# Altium schematic symbol library bethu.SchLib: 609 symbols (part 3 of 6)
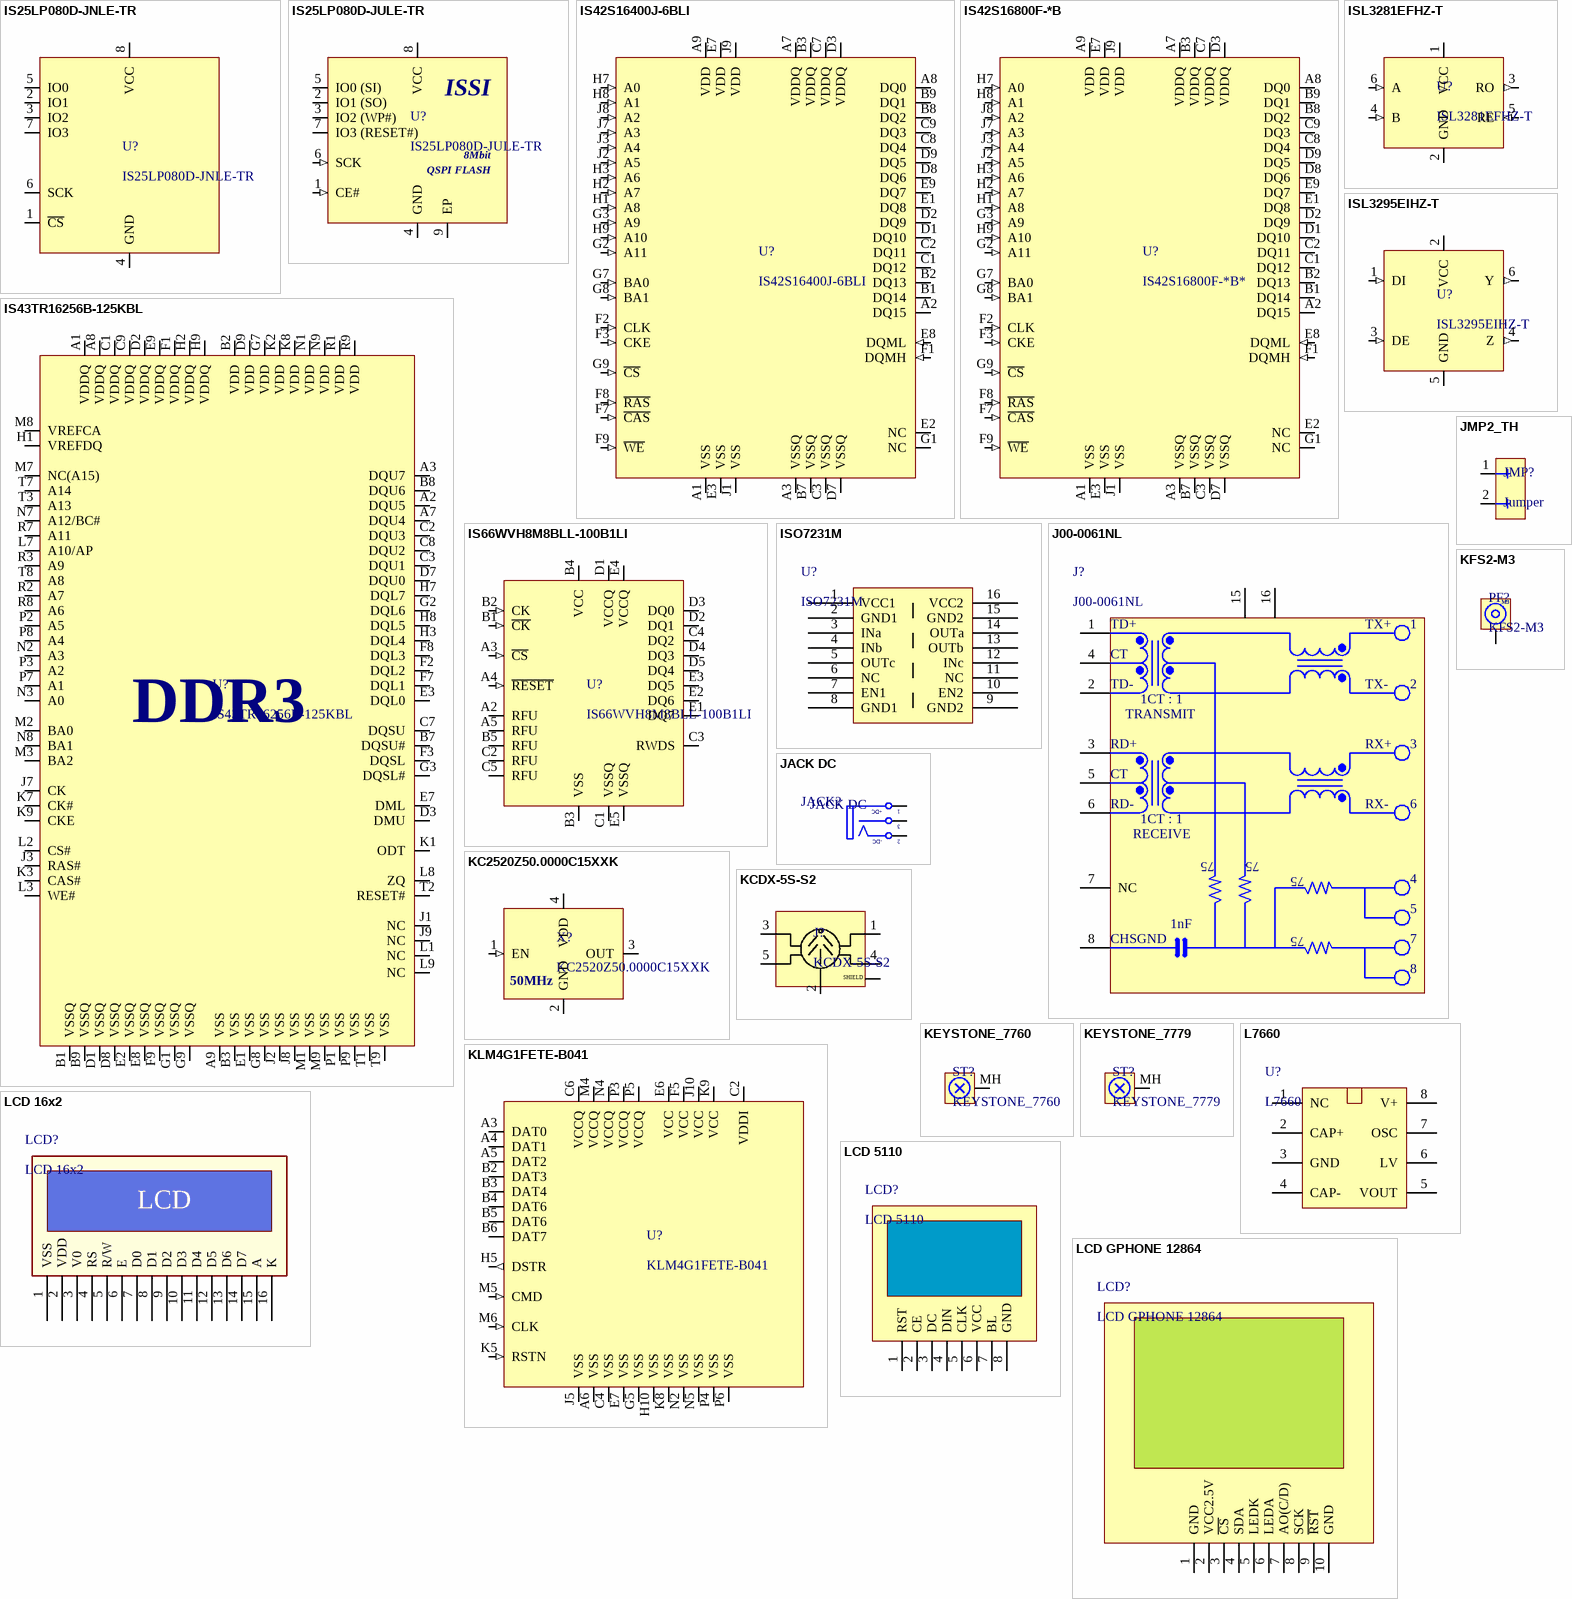
[diagram p42: symbols IS25LP080D-JNLE-TR to LCD GPHONE 12864]

## IS43TR16256B-125KBL
designator U?
DRAM 4GBit, 1.5V, DDR3, 256Mx16, 1600MT/s @ 11-11-11, 96 ball BGA (9mm x13mm) RoHS; Manufacturer: ISSI; Manufacturer Part Number: IS43TR16256B-125KBL
footprint BGA96C80P9X16_900X1300X120 (BGA, 96-Leads, Body 9.00x13.00mmx1.20mm, Pitch 0.80mm)
pins: A1 VDDQ, A2 DQU5, A3 DQU7, A7 DQU4, A8 VDDQ, A9 VSS, B1 VSSQ, B2 VDD, B3 VSS, B7 DQSU#, B8 DQU6, B9 VSSQ, C1 VDDQ, C2 DQU3, C3 DQU1, C7 DQSU, C8 DQU2, C9 VDDQ, D1 VSSQ, D2 VDDQ, D3 DMU, D7 DQU0, D8 VSSQ, D9 VDD, E1 VSS, E2 VSSQ, E3 DQL0, E7 DML, E8 VSSQ, E9 VDDQ, F1 VDDQ, F2 DQL2, F3 DQSL, F7 DQL1, F8 DQL3, F9 VSSQ, G1 VSSQ, G2 DQL6, G3 DQSL#, G7 VDD, G8 VSS, G9 VSSQ, H1 VREFDQ, H2 VDDQ, H3 DQL4, H7 DQL7, H8 DQL5, H9 VDDQ, J1 NC, J2 VSS, J3 RAS#, J7 CK, J8 VSS, J9 NC, K1 ODT, K2 VDD, K3 CAS#, K7 CK#, K8 VDD, K9 CKE, L1 NC, L2 CS#, L3 WE#, L7 A10/AP, L8 ZQ, L9 NC, M1 VSS, M2 BA0, M3 BA2, M7 NC(A15), M8 VREFCA, M9 VSS, N1 VDD, N2 A3, N3 A0, N7 A12/BC#, N8 BA1, N9 VDD, P1 VSS, P2 A5, P3 A2, P7 A1, P8 A4, P9 VSS, R1 VDD, R2 A7, R3 A9, R7 A11, R8 A6, R9 VDD, T1 VSS, T2 RESET#, T3 A13, T7 A14, T8 A8, T9 VSS
text: DDR3

## IS66WVH8M8BLL-100B1LI
designator U?
64Mbit (8Mx8) HyperRAM 100MHz; Manufacturer: ISSI; Manufacturer Part Number: IS66WVH8M8BLL-100B1LI; Distributor Link: https://www.mouser.de/ProductDetail/ISSI/IS66WVH8M8BLL-100B1LI?qs=K1oHB112QgngRH5bU%252BIWKA%3D%3D
footprint TFBGA-24-6X8X1MM2
pins: A2 RFU, A3 ~{CS} (in), A4 ~{RESET} (in), A5 RFU, B1 ~{CK} (in), B2 CK (in), B3 VSS (power), B4 VCC (power), B5 RFU, C1 VSSQ (power), C2 RFU, C3 RWDS (io), C4 DQ2 (io), C5 RFU, D1 VCCQ (power), D2 DQ1 (io), D3 DQ0 (io), D4 DQ3 (io), D5 DQ4 (io), E1 DQ7 (io), E2 DQ6 (io), E3 DQ5 (io), E4 VCCQ (power), E5 VSSQ (power)

## ISL3281EFHZ-T
designator U?
RS-485/RS-422 Single Receiver 3.0V to 5.5V ESD Protected; Manufacturer: Renesas Electronics; Manufacturer Part Number: ISL3281EFHZ-T
footprint SOT-23-6
pins: 1 VCC (power), 2 GND (power), 3 RO (out), 4 B (in), 5 RE (in), 6 A (in)

## ISL3295EIHZ-T
designator U?
RS-485/RS-422 Transmitter, ±16.5kV ESD Protected, +125°C, 3.0V to 5.5V, SOT-23-6, Low Power; Manufacturer: Renesas; Manufacturer Part Number: ISL3295EIHZ-T
footprint SOT-23-6
pins: 1 DI (in), 2 VCC (power), 3 DE (in), 4 Z (out), 5 GND (power), 6 Y (out)

## ISO7231M
designator U?
footprint ISO7231M (SOIC, 16-Leads, Body 10.5x7.6mm (max), Pitch 1.27mm, IPC Medium Density)
pins: 1 VCC1, 2 GND1, 3 INa, 4 INb, 5 OUTc, 6 NC, 7 EN1, 8 GND1, 9 GND2, 10 EN2, 11 NC, 12 INc, 13 OUTb, 14 OUTa, 15 GND2, 16 VCC2

## J00-0061NL
designator J?
footprint RJ45
pins: 1 TD+, 2 TD-, 3 RD+, 4 CT, 5 CT, 6 RD-, 7 NC, 8 CHSGND, 15, 16
text: TX+; TX-; 1CT : 1; TRANSMIT; RX+; RX-; RECEIVE; 75; 1nF

## JACK DC
designator JACK?
Value: Jac DC
footprint JACK DC (Jac DC input)
pins: 1 T "Tip", 2 TN "Tip Normal (Break Contact)", 3 S (power) "Sleeve (Ground)"
text: +DC; -DC

## JMP2_TH
designator JMP?, comment Jumper
Jumper 2 Pins Through-Hole DO NOT PLACE
footprint JMP2_TH
pins: 1, 2

## KC2520Z50.0000C15XXK
designator X?
Standard Clock Oscillators 50 MHz 30 PPM 15 pF 1.71 V to 3.63 V 2.5mm x 2.0mm; Manufacturer: Kyocera; Manufacturer Part Number: KC2520Z50.0000C15XXK
footprint SSOP5
footprint XTAL_2520
pins: 1 EN (in), 2 GND (power), 3 OUT, 4 VDD (power)
text: 50MHz

## KCDX-5S-S2
designator J?
Circular DIN Receptacle 5-Position Shielded Through-Hole Right-Angle; Manufacturer: Kycon; Manufacturer Part Number: KCDX-5S-S2; Distributor Link: https://www.mouser.de/ProductDetail/Kycon/KCDX-5S-S2?qs=Hyo%2FOIDW0pNotQHJom5wpw%3D%3D
footprint KCDX-5S-S2
pins: 1, 2, 3, 4, 5, SH
text: SHIELD

## KEYSTONE_7760
designator ST?
PC Screw Terminal Snap-In M3 (No screw supplied); Manufacturer: Keystone Electronics; Manufacturer Part Number: 7760
footprint KEYSTONE_7760
pins: MH

## KEYSTONE_7779
designator ST?
PC Screw Terminal Snap-In; Manufacturer: Keystone Electronics; Manufacturer Part Number: 7779
footprint KEYSTONE_7779
pins: MH

## KFS2-M3
designator PF?
Press-Fit Threaded Insert M3; Manufacturer: PEM; Manufacturer Part Number: KFS2-M3; Distributor Link: https://www.mouser.de/ProductDetail/PEM/KFS2-M3?qs=l4Gc20tDgJL482Qf8JcURA%3D%3D
footprint KFS2-M3
pins: PF
text: M3

## KLM4G1FETE-B041
designator U?
4GB eMMC 8-bit memory FBGA-153; Manufacturer: Samsung; Manufacturer Part Number: KLM4G1FETE-B041; LCSC: C500273; Distributor Link: https://www.lcsc.com/product-detail/eMMC_Samsung-KLM4G1FETE-B041_C500273.html
footprint FBGA-153-11X10X0MM8
pins: A3 DAT0 (io), A4 DAT1 (io), A5 DAT2 (io), A6 VSS (power), B2 DAT3 (io), B3 DAT4 (io), B4 DAT6 (io), B5 DAT6 (io), B6 DAT7 (io), C2 VDDI (power), C4 VSS (power), C6 VCCQ (power), E6 VCC (power), E7 VSS (power), F5 VCC (power), G5 VSS (power), H5 DSTR (out), H10 VSS (power), J5 VSS (power), J10 VCC (power), K5 RSTN (in), K8 VSS (power), K9 VCC (power), M4 VCCQ (power), M5 CMD (in), M6 CLK (in), N2 VSS (power), N4 VCCQ (power), N5 VSS (power), P3 VCCQ (power), P4 VSS (power), P5 VCCQ (power), P6 VSS (power)

## L7660
designator U?
footprint SOIC 8PIN
pins: 1 NC, 2 CAP+, 3 GND, 4 CAP-, 5 VOUT, 6 LV, 7 OSC, 8 V+

## LCD 16x2
designator LCD?
footprint LCD 16x2-A (Pantalla LCD 16 caracteres x 2 Lineas, conexion superior)
pins: 1 VSS, 2 VDD, 3 V0, 4 RS, 5 R/W, 6 E, 7 D0, 8 D1, 9 D2, 10 D3, 11 D4, 12 D5, 13 D6, 14 D7, 15 A, 16 K
text: LCD

## LCD 5110
designator LCD?
footprint LCD 5110
pins: 1 RST, 2 CE, 3 DC, 4 DIN, 5 CLK, 6 VCC, 7 BL, 8 GND

## LCD GPHONE 12864
designator LCD?
footprint IDC10 MALE (Connector; Header; 5x2 Position)
pins: 1 GND, 2 VCC2.5V, 3 ~{CS}, 4 SDA, 5 LEDK, 6 LEDA, 7 AO(C/D), 8 SCK, 9 ~{RST}, 10 GND

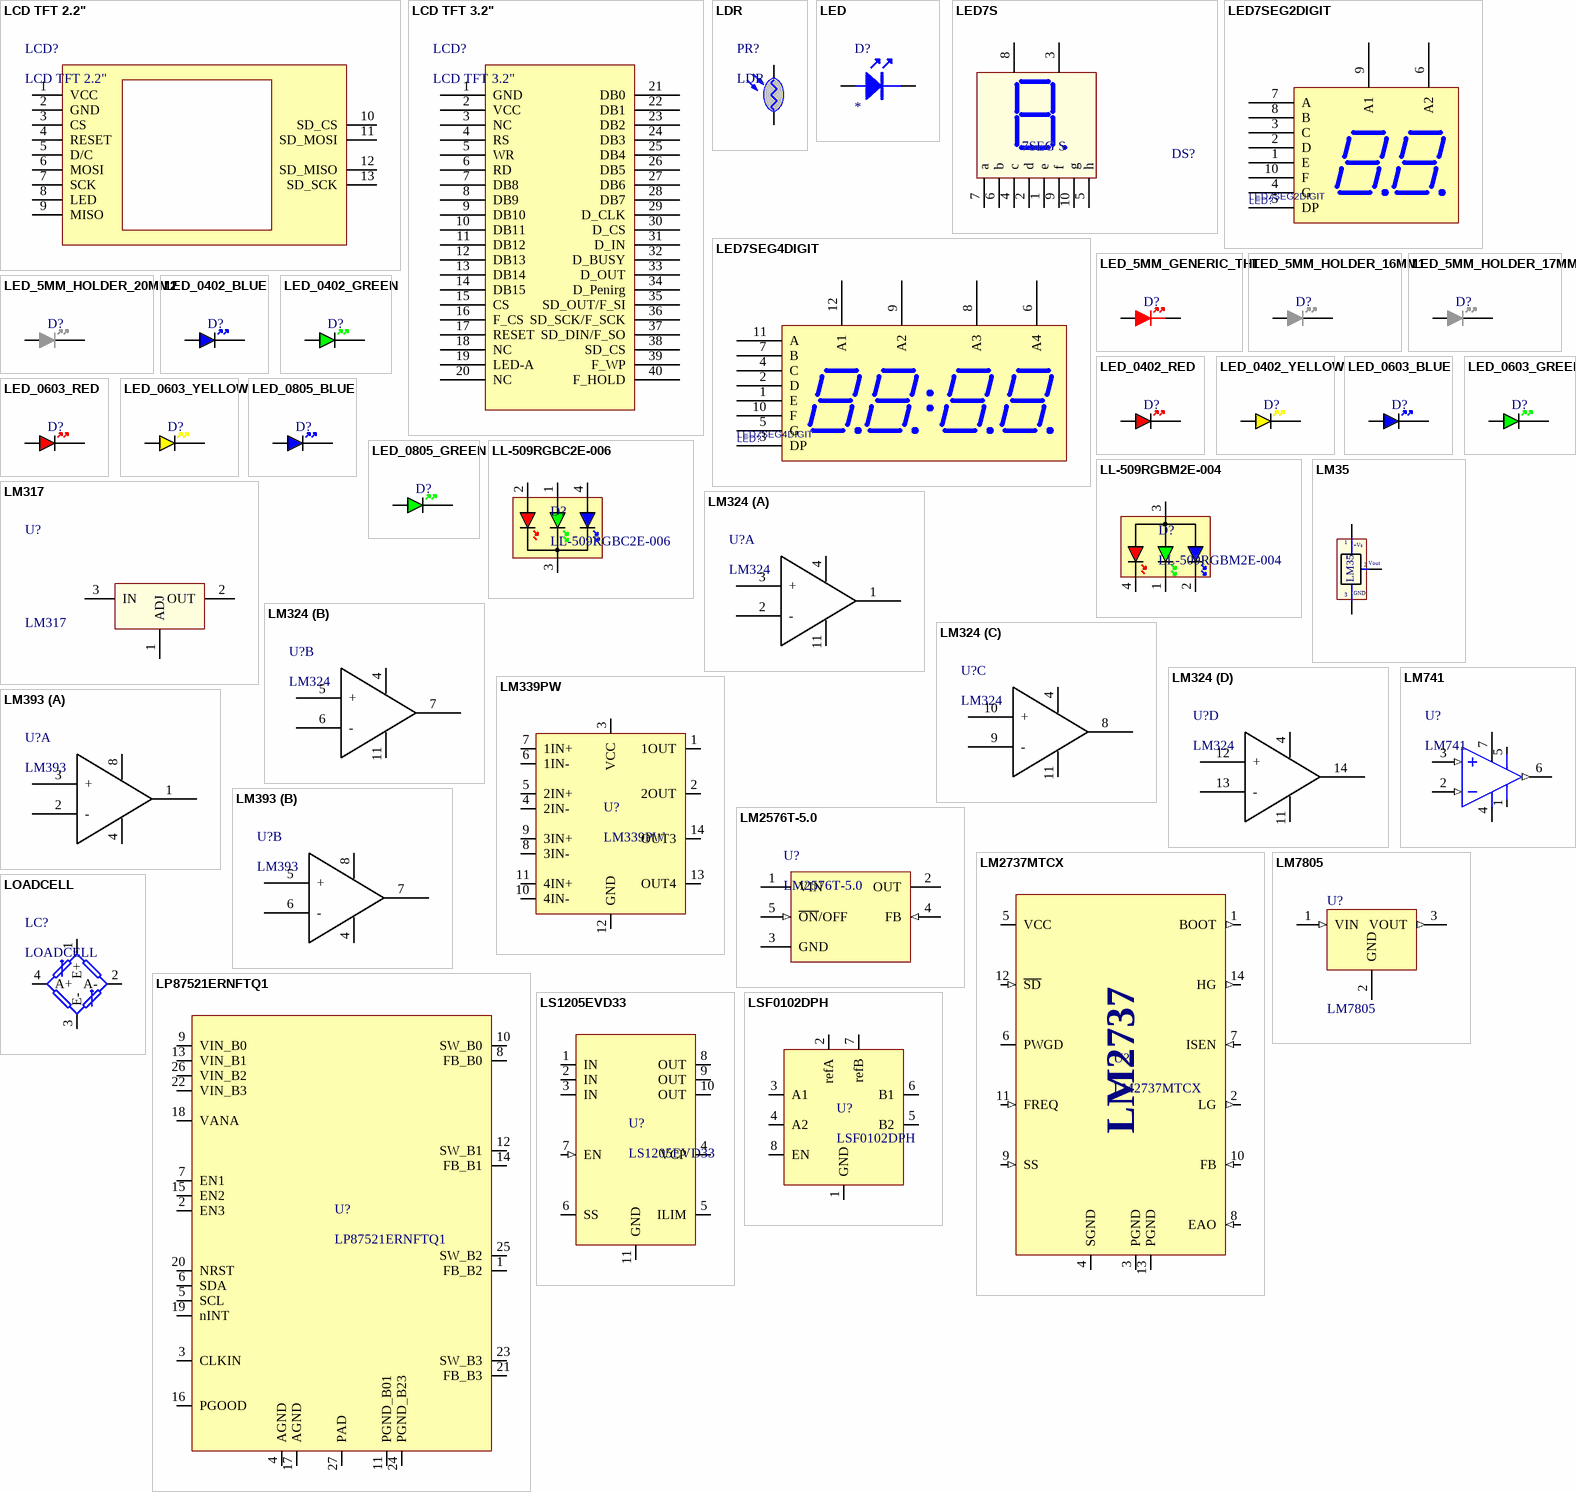
[diagram p16: symbols LCD TFT 2.2" to LSF0102DPH]

## LCD TFT 2.2"
designator LCD?
footprint LCD TFT 2.2"
pins: 1 VCC, 2 GND, 3 CS, 4 RESET, 5 D/C, 6 MOSI, 7 SCK, 8 LED, 9 MISO, 10 SD_CS, 11 SD_MOSI, 12 SD_MISO, 13 SD_SCK

## LCD TFT 3.2"
designator LCD?
footprint LCD TFT 3.2"
pins: 1 GND, 2 VCC, 3 NC, 4 RS, 5 WR, 6 RD, 7 DB8, 8 DB9, 9 DB10, 10 DB11, 11 DB12, 12 DB13, 13 DB14, 14 DB15, 15 CS, 16 F_CS, 17 RESET, 18 NC, 19 LED-A, 20 NC, 21 DB0, 22 DB1, 23 DB2, 24 DB3, 25 DB4, 26 DB5, 27 DB6, 28 DB7, 29 D_CLK, 30 D_CS, 31 D_IN, 32 D_BUSY, 33 D_OUT, 34 D_Penirg, 35 SD_OUT/F_SI, 36 SD_SCK/F_SCK, 37 SD_DIN/F_SO, 38 SD_CS, 39 F_WP, 40 F_HOLD

## LDR
designator PR?
footprint PHOTO RESISTOR (Connector; Header; 2 Position)
pins: 1, 2

## LED
designator D?
footprint LED SMD 0805 (Compoment SMD 80x50mil)
footprint LED 0805
footprint LED 1206
pins: 1, 2

## LED7S
designator DS?, comment 7SEG S
Single 7 Seg Dipslay; Value: LED 7S SEG
footprint 7SEGS 0.56" (DIP 10 Leads; Body 12 x 15 mm; Pitch 0.5 mm)
pins: 1 e, 2 d, 3 Vcc, 4 c, 5 h, 6 b, 7 a, 8 Vcc, 9 f, 10 g

## LED7SEG2DIGIT
designator LED?
footprint LED7SEG3DIGIT (DIP; 14 Leads (2 Absent); Row Spacing 7.62 mm; Pitch 2.54 mm)
pins: 1 E, 2 D, 3 C, 4 G, 5 DP, 6 A2, 7 A, 8 B, 9 A1, 10 F

## LED7SEG4DIGIT
designator LED?
footprint LED7SEG 4-DIGIT
pins: 1 E, 2 D, 3 DP, 4 C, 5 G, 6 A4, 7 B, 8 A3, 9 A2, 10 F, 11 A, 12 A1

## LED_5MM_GENERIC_THT
designator D?, comment LED  (value not drawn)
5mm LED Generic THT
footprint LED_5MM
pins: A, K

## LED_5MM_HOLDER_16MM1
designator D?, comment LED  (value not drawn)
5mm LED Holder Height 16.1mm (w/o LED); Manufacturer: BIVAR; Manufacturer Part Number: SLM-490
footprint SLM-490
pins: A, K

## LED_5MM_HOLDER_17MM1
designator D?, comment LED  (value not drawn)
5mm LED Holder Height 17.1mm (w/o LED); Manufacturer: BIVAR; Manufacturer Part Number: SLM-530
footprint SLM-530
pins: A, K

## LED_5MM_HOLDER_20MM2
designator D?, comment LED  (value not drawn)
5mm LED Holder Height 20.2mm (w/o LED); Manufacturer: BIVAR; Manufacturer Part Number: SLM-650
footprint SLM-650
pins: A, K

## LED_0402_BLUE
designator D?, comment BLUE  (value not drawn)
LED 0402 BLUE SMD
footprint LED_0402_BLUE
pins: A, K

## LED_0402_GREEN
designator D?, comment GREEN  (value not drawn)
LED 0402 GREEN SMD
footprint LED_0402_GREEN
pins: A, K

## LED_0402_RED
designator D?, comment RED  (value not drawn)
LED 0402 RED SMD
footprint LED_0402_RED
pins: A, K

## LED_0402_YELLOW
designator D?, comment YELLOW  (value not drawn)
LED 0402 YELLOW SMD
footprint LED_0402_YELLOW
pins: A, K

## LED_0603_BLUE
designator D?, comment BLUE  (value not drawn)
LED 0603 BLUE SMD
footprint LED_0603_BLUE
pins: A, K

## LED_0603_GREEN
designator D?, comment GREEN  (value not drawn)
LED 0603 GREEN SMD
footprint LED_0603_GREEN
pins: A, K

## LED_0603_RED
designator D?, comment RED  (value not drawn)
LED 0603 RED SMD
footprint LED_0603_RED
pins: A, K

## LED_0603_YELLOW
designator D?, comment YELLOW  (value not drawn)
LED 0603 YELLOW SMD
footprint LED_0603_YELLOW
pins: A, K

## LED_0805_BLUE
designator D?, comment BLUE  (value not drawn)
LED 0805 BLUE SMD; Manufacturer: *; Manufacturer Part Number: *; Distributor Link: *; LCSC: *
footprint LED_0805_BLUE
pins: A, K

## LED_0805_GREEN
designator D?, comment GREEN  (value not drawn)
LED 0805 GREEN SMD; Manufacturer: *; Manufacturer Part Number: *; Distributor Link: *; LCSC: *
footprint LED_0805_GREEN
pins: A, K

## LL-509RGBC2E-006
designator D?
RGB LED Common Cathode 5MM THT; Manufacturer: Luckylight; Manufacturer Part Number: LL-509RGBC2E-006; Datasheet: https://www.tme.eu/en/details/ll-509rgbc2e-006/tht-leds-round/luckylight/
footprint LED_RGB_5MM_THT
pins: 1 AG, 2 AR, 3 CC, 4 AB

## LL-509RGBM2E-004
designator D?
RGB LED Common Anode 5MM THT; Manufacturer: Luckylight; Manufacturer Part Number: LL-509RGBM2E-004; Datasheet: https://www.tme.eu/de/details/ll-509rgbm2e-004/tht-leds-round/luckylight/
footprint LED_RGB_5MM_THT
pins: 1 CG, 2 CB, 3 AC, 4 CR

## LM35
designator U?
Value: LM35
footprint QTO-92 (TO-92)
pins: 1 +Vs, 2 Vout, 3 -
text: GND

## LM317
designator U?
Value: LM317
pins: 1 ADJ, 2 OUT, 3 IN

## LM324
designator U?
footprint SOIC 16PIN
part A pins: 1, 2 -, 3 +, 4, 11
part B pins: 4, 5 +, 6 -, 7, 11
part C pins: 4, 8, 9 -, 10 +, 11
part D pins: 4, 11, 12 +, 13 -, 14

## LM339PW
designator U?
Quad Differential Comparators; Manufacturer: Texas Instruments; Manufacturer Part Number: LM339PW
footprint TSSOP-14
pins: 1 1OUT, 2 2OUT, 3 VCC, 4 2IN-, 5 2IN+, 6 1IN-, 7 1IN+, 8 3IN-, 9 3IN+, 10 4IN-, 11 4IN+, 12 GND, 13 OUT4, 14 OUT3

## LM393
designator U?
footprint SOIC 8PIN
part A pins: 1, 2 -, 3 +, 4, 8
part B pins: 4, 5 +, 6 -, 7, 8

## LM741
designator U?
footprint DIP 8 (W.300/L.400)
pins: 1 Vos, 2 IN- (in), 3 IN+ (in), 4 -V, 5 Vos, 6 OUT (out), 7 +V

## LM2576T-5.0
designator U?
Manufacturer: National Semiconductor; CompType: Switcher; PackageTopMarking: NSUZXYTT*LM2576T*-5.0 P+; PowerWise: N; FirstPublished: 4-Dec-2008; DatasheetVersion: Aug-2004; PackageVersion: revJ, Jan-1992; PackageReference: T05A; Publisher: Altium Limited; PackageDescription: TO-220, Molded, 5 Lead, Straight; PartNumber: LM2576T-5.0; RoHS: O; PinCount: 5; DigiKeyPartNumber: LM2576T-5.0-ND; Code_JEDEC: TO-220-AB; ComponentLink1Description: LM2576 Datasheet; ComponentLink1URL: http://www.national.com/ds/LM/LM2576.pdf; ComponentLink2Description: LM2576 Web Page; ComponentLink2URL: http://www.national.com/pf/LM/LM2576.html; ComponentLink3Description: T05A Package Page; ComponentLink3URL: http://www.national.com/packaging/folders/t05a.html
footprint TO263-5 (LM2576-SMD)
pins: 1 VIN (power), 2 OUT (power), 3 GND (power), 4 FB (in), 5 ~{ON}/OFF (in)

## LM2737MTCX
designator U?
N-Channel FET Synchronous Buck Regulator Controller for Low Output / Voltages; Manufacturer: Texas Instruments; Manufacturer Part Number: LM2737MTCX
footprint TSSOP-14
pins: 1 BOOT (out), 2 LG (out), 3 PGND (power), 4 SGND (power), 5 VCC (power), 6 PWGD (oc), 7 ISEN (in), 8 EAO (in), 9 SS (in), 10 FB (in), 11 FREQ (in), 12 ~{SD} (in), 13 PGND (power), 14 HG (out)
text: LM2737

## LM7805
designator U?
Text Field1: 70; Text Field2: 30
footprint TO252 DPAK (D-PAK, 3-Pads, Body 6.3x6.8mm (max), IPC Medium Density)
pins: 1 VIN (in), 2 GND (power), 3 VOUT (out)

## LOADCELL
designator LC?
footprint HDR1X4 2.54mm (Connector; Header; 4 Position)
pins: 1 E+, 2 A-, 3 E-, 4 A+

## LP87521ERNFTQ1
designator U?
DC/DC Switching Voltage Regulator 10-A, 4-phase, single output buck converter with integrated switches 26-VQFN-HR
footprint VQFN-HR
pins: 1 FB_B2, 2 EN3, 3 CLKIN, 4 AGND, 5 SCL, 6 SDA, 7 EN1, 8 FB_B0, 9 VIN_B0, 10 SW_B0, 11 PGND_B01, 12 SW_B1, 13 VIN_B1, 14 FB_B1, 15 EN2, 16 PGOOD, 17 AGND, 18 VANA, 19 nINT, 20 NRST, 21 FB_B3, 22 VIN_B3, 23 SW_B3, 24 PGND_B23, 25 SW_B2, 26 VIN_B2, 27 PAD

## LS1205EVD33
designator U?
18V, 5A eFuse with Programmable Current Limit and Output Voltage Clamp; Manufacturer: Littelfuse; Manufacturer Part Number: LS1205EVD33
footprint DFN3x3_10L
pins: 1 IN (power), 2 IN (power), 3 IN (power), 4 VCP, 5 ILIM, 6 SS, 7 EN (in), 8 OUT (power), 9 OUT (power), 10 OUT (power), 11 GND (power)

## LSF0102DPH
designator U?
2-bit bidirectional multi-voltage level translator; open-drain; / push-pull; Manufacturer: Nexperia; Manufacturer Part Number: LSF0102DPH
footprint TSSOP-8
pins: 1 GND, 2 refA, 3 A1, 4 A2, 5 B2, 6 B1, 7 refB, 8 EN

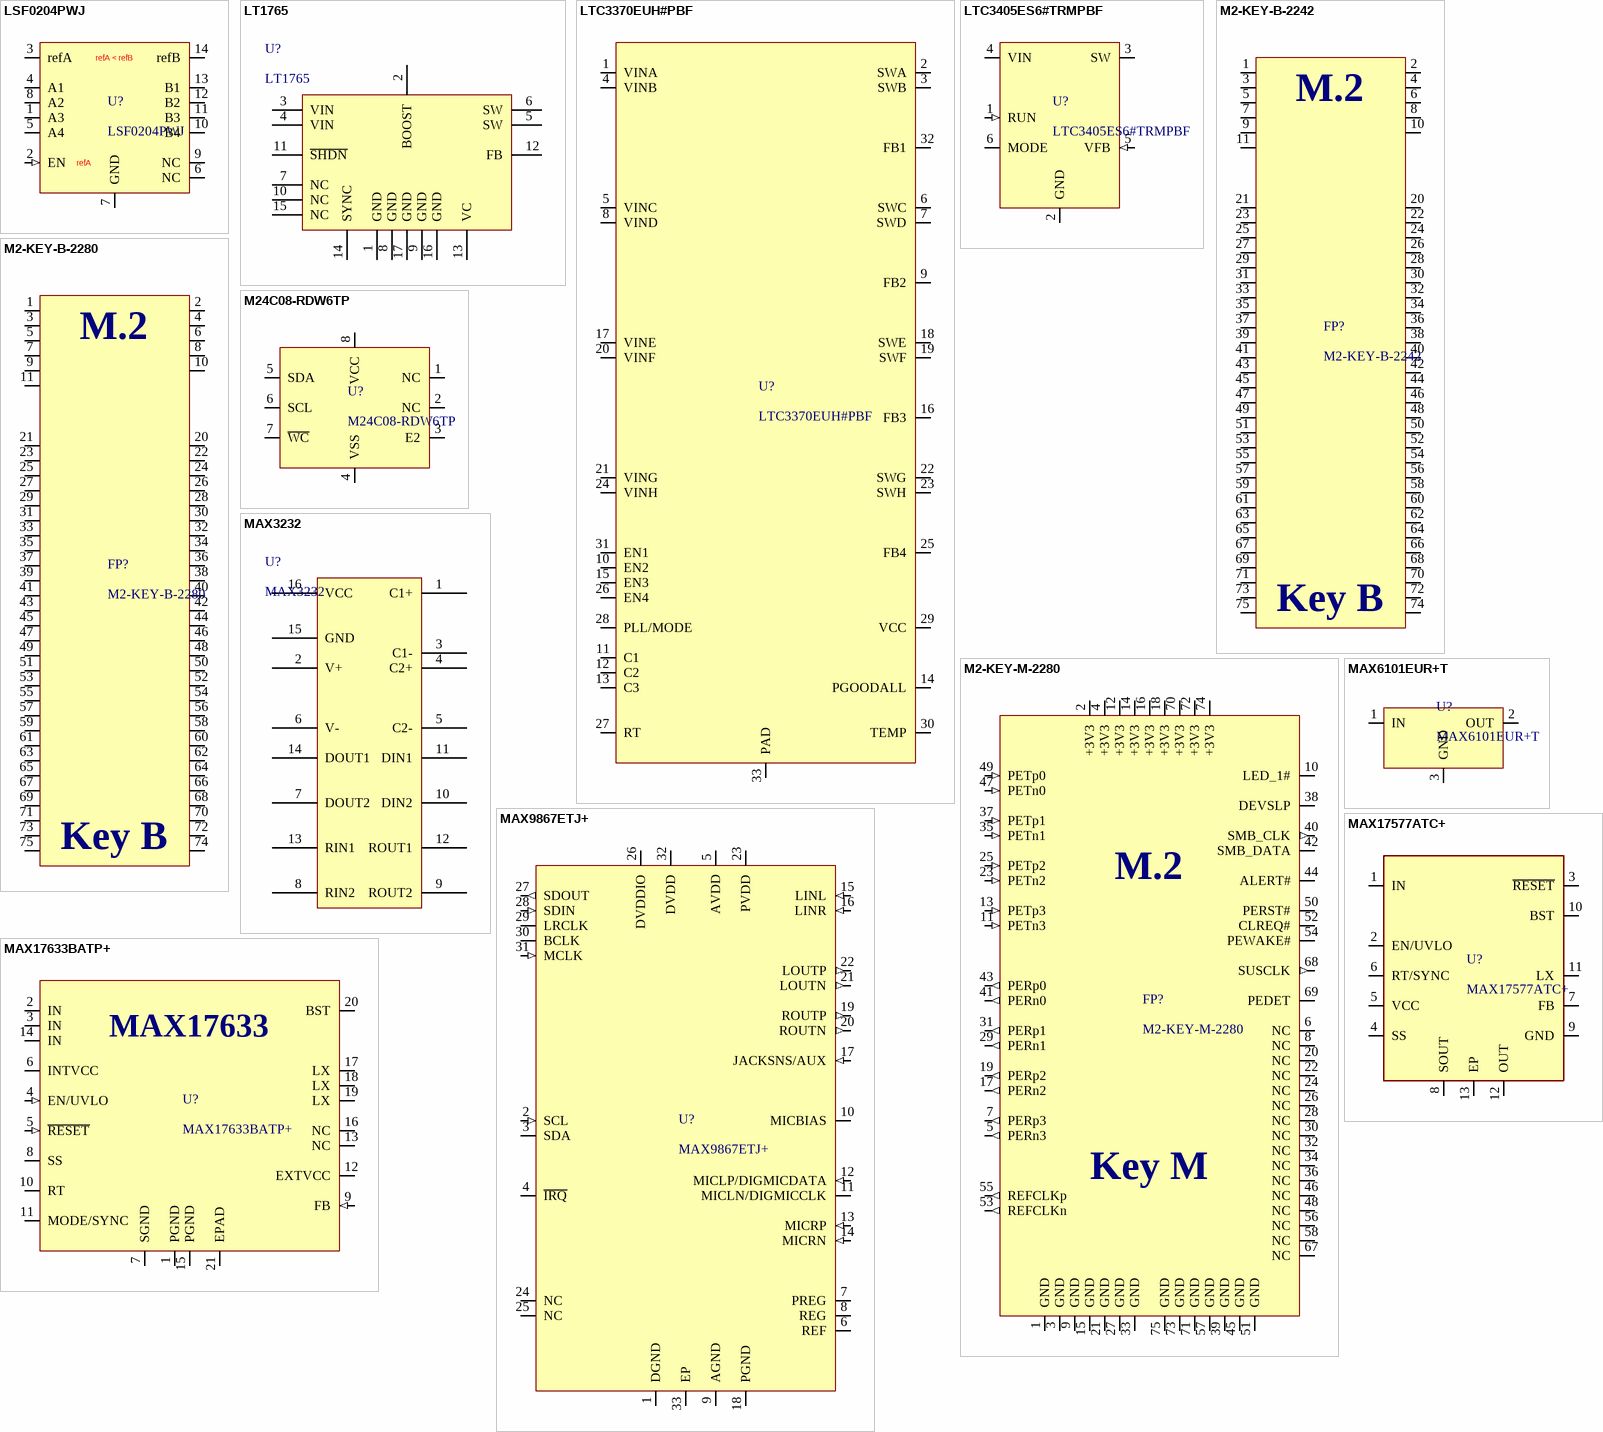
[diagram p17: symbols LSF0204PWJ to MAX17633BATP+]

## LSF0204PWJ
designator U?
4-bit bidirectional multi-voltage level translator; Manufacturer: Nexperia; Manufacturer Part Number: LSF0204PWJ; Distributor Link: https://www.mouser.de/ProductDetail/Nexperia/LSF0204PWJ?qs=sPbYRqrBIVlVSmmo7LgSzQ%3D%3D; LCSC: C4363923
footprint TSSOP-14
pins: 1 A3 (io), 2 EN (in), 3 refA (power), 4 A1 (io), 5 A4 (io), 6 NC, 7 GND (power), 8 A2 (io), 9 NC, 10 B4 (io), 11 B3 (io), 12 B2 (io), 13 B1 (io), 14 refB (power)
text: refA < refB

## LT1765
designator U?
footprint TSSOP - 16PIN
pins: 1 GND, 2 BOOST, 3 VIN, 4 VIN, 5 SW, 6 SW, 7 NC, 8 GND, 9 GND, 10 NC, 11 ~{SHDN}, 12 FB, 13 VC, 14 SYNC, 15 NC, 16 GND, 17 GND

## LTC3370EUH#PBF
designator U?
Switching Regulators 4-Channel 8A Configurable Buck DC/DC; Manufacturer: Analog Devices; Manufacturer Part Number: LTC3370EUH#PBF
footprint QFN32-5X5
pins: 1 VINA, 2 SWA, 3 SWB, 4 VINB, 5 VINC, 6 SWC, 7 SWD, 8 VIND, 9 FB2, 10 EN2, 11 C1, 12 C2, 13 C3, 14 PGOODALL, 15 EN3, 16 FB3, 17 VINE, 18 SWE, 19 SWF, 20 VINF, 21 VING, 22 SWG, 23 SWH, 24 VINH, 25 FB4, 26 EN4, 27 RT, 28 PLL/MODE, 29 VCC, 30 TEMP, 31 EN1, 32 FB1, 33 PAD

## LTC3405ES6#TRMPBF
designator U?
1.5MHz, 300mA / Synchronous Step-Down / Regulator in ThinSOT; Manufacturer: Analog Devices; Manufacturer Part Number: LTC3405ES6#TRMPBF
footprint SOT-23-6
pins: 1 RUN (in), 2 GND (power), 3 SW (power), 4 VIN (power), 5 VFB (in), 6 MODE

## M2-KEY-B-2242
designator FP?
M.2 Key B 22x42 Footprint
footprint M2-KEY-B-2242
pins: 1, 2, 3, 4, 5, 6, 7, 8, 9, 10, 11, 20, 21, 22, 23, 24, 25, 26, 27, 28, 29, 30, 31, 32, 33, 34, 35, 36, 37, 38, 39, 40, 41, 42, 43, 44, 45, 46, 47, 48, 49, 50, 51, 52, 53, 54, 55, 56, 57, 58, 59, 60, 61, 62, 63, 64, 65, 66, 67, 68, 69, 70, 71, 72, 73, 74, 75
text: M.2; Key B

## M2-KEY-B-2280
designator FP?
M.2 Key B 22x80mm Footprint Outline
footprint M2-KEY-B-2280
pins: 1, 2, 3, 4, 5, 6, 7, 8, 9, 10, 11, 20, 21, 22, 23, 24, 25, 26, 27, 28, 29, 30, 31, 32, 33, 34, 35, 36, 37, 38, 39, 40, 41, 42, 43, 44, 45, 46, 47, 48, 49, 50, 51, 52, 53, 54, 55, 56, 57, 58, 59, 60, 61, 62, 63, 64, 65, 66, 67, 68, 69, 70, 71, 72, 73, 74, 75
text: M.2; Key B

## M2-KEY-M-2280
designator FP?  (no BOM)
M.2 Key M 22mm x 80mm
footprint M2-KEY-M-2280
pins: 1 GND (power), 2 +3V3 (power), 3 GND (power), 4 +3V3 (power), 5 PERn3 (out), 6 NC, 7 PERp3 (out), 8 NC, 9 GND (power), 10 LED_1#, 11 PETn3 (in), 12 +3V3 (power), 13 PETp3 (in), 14 +3V3 (power), 15 GND (power), 16 +3V3 (power), 17 PERn2 (out), 18 +3V3 (power), 19 PERp2 (out), 20 NC, 21 GND (power), 22 NC, 23 PETn2 (in), 24 NC, 25 PETp2 (in), 26 NC, 27 GND (power), 28 NC, 29 PERn1 (out), 30 NC, 31 PERp1 (out), 32 NC, 33 GND (power), 34 NC, 35 PETn1 (in), 36 NC, 37 PETp1 (in), 38 DEVSLP, 39 GND (power), 40 SMB_CLK (out), 41 PERn0 (out), 42 SMB_DATA (io), 43 PERp0 (out), 44 ALERT#, 45 GND (power), 46 NC, 47 PETn0 (in), 48 NC, 49 PETp0 (in), 50 PERST#, 51 GND (power), 52 CLREQ#, 53 REFCLKn (out), 54 PEWAKE#, 55 REFCLKp (out), 56 NC, 57 GND (power), 58 NC, 67 NC, 68 SUSCLK (out), 69 PEDET, 70 +3V3 (power), 71 GND (power), 72 +3V3 (power), 73 GND (power), 74 +3V3 (power), 75 GND (power)
text: M.2; Key M

## M24C08-RDW6TP
designator U?
EEPROM I2C 8kbit TSSOP-8; Manufacturer: STMicroelectronics; Manufacturer Part Number: M24C08-RDW6TP
footprint TSSOP-8-DW
pins: 1 NC, 2 NC, 3 E2, 4 VSS, 5 SDA, 6 SCL, 7 ~{WC}, 8 VCC

## MAX3232
designator U?
footprint TSSOP 16PIN
pins: 1 C1+, 2 V+, 3 C1-, 4 C2+, 5 C2-, 6 V-, 7 DOUT2, 8 RIN2, 9 ROUT2, 10 DIN2, 11 DIN1, 12 ROUT1, 13 RIN1, 14 DOUT1, 15 GND, 16 VCC

## MAX6101EUR+T
designator U?
Voltage References 1.25V Low-Cost, Micropower, Low-Dropout, High-Output-Current, SOT23; Manufacturer: Maxim Integrated; Manufacturer Part Number: MAX6101EUR+T
footprint SOT-23-3
pins: 1 IN, 2 OUT, 3 GND

## MAX9867ETJ+
designator U?
Ultra-Low Power Stereo Audio Codec; Manufacturer: Analog Devices; Manufacturer Part Number: MAX9867ETJ+; Distributor Link: https://www.mouser.de/ProductDetail/Analog-Devices-Maxim-Integrated/MAX9867ETJ%2b?qs=sGAEpiMZZMtq3QB8qGen7SIHwSr8V4Ok%252Busc24GjQms%3D; LCSC: C1521470
footprint TQFN-32
pins: 1 DGND (power), 2 SCL (in), 3 SDA (io), 4 ~{IRQ} (oc), 5 AVDD (power), 6 REF (power), 7 PREG (power), 8 REG (power), 9 AGND (power), 10 MICBIAS (power), 11 MICLN/DIGMICCLK (io), 12 MICLP/DIGMICDATA (in), 13 MICRP (in), 14 MICRN (in), 15 LINL (in), 16 LINR (in), 17 JACKSNS/AUX (in), 18 PGND (power), 19 ROUTP (out), 20 ROUTN (out), 21 LOUTN (out), 22 LOUTP (out), 23 PVDD (power), 24 NC, 25 NC, 26 DVDDIO (power), 27 SDOUT (out), 28 SDIN (in), 29 LRCLK (io), 30 BCLK (io), 31 MCLK (in), 32 DVDD (power), 33 EP (power)

## MAX17577ATC+
designator U?
4.5V to 60V, 1A High-Efficiency, Synchronous, Inverting Output DC-DC Converters; Manufacturer: Maxim Integrated; Manufacturer Part Number: MAX17577ATC+
footprint SON50P300X300X80-13N
pins: 1 IN, 2 EN/UVLO, 3 ~{RESET}, 4 SS, 5 VCC, 6 RT/SYNC, 7 FB, 8 SOUT, 9 GND, 10 BST, 11 LX, 12 OUT, 13 EP

## MAX17633BATP+
designator U?
4.5V to 36V, 3.5A, High Efficiency, / Synchronous Step-Down, DC-DC Converter; Manufacturer: Maxim Integrated; Manufacturer Part Number: MAX17633BATP+
footprint QFN50P400X400X80-21N
pins: 1 PGND (power), 2 IN (power), 3 IN (power), 4 EN/UVLO (in), 5 ~{RESET} (in), 6 INTVCC (power), 7 SGND (power), 8 SS, 9 FB (in), 10 RT, 11 MODE/SYNC, 12 EXTVCC (power), 13 NC, 14 IN (power), 15 PGND (power), 16 NC, 17 LX (power), 18 LX (power), 19 LX (power), 20 BST (power), 21 EPAD (power)
text: MAX17633

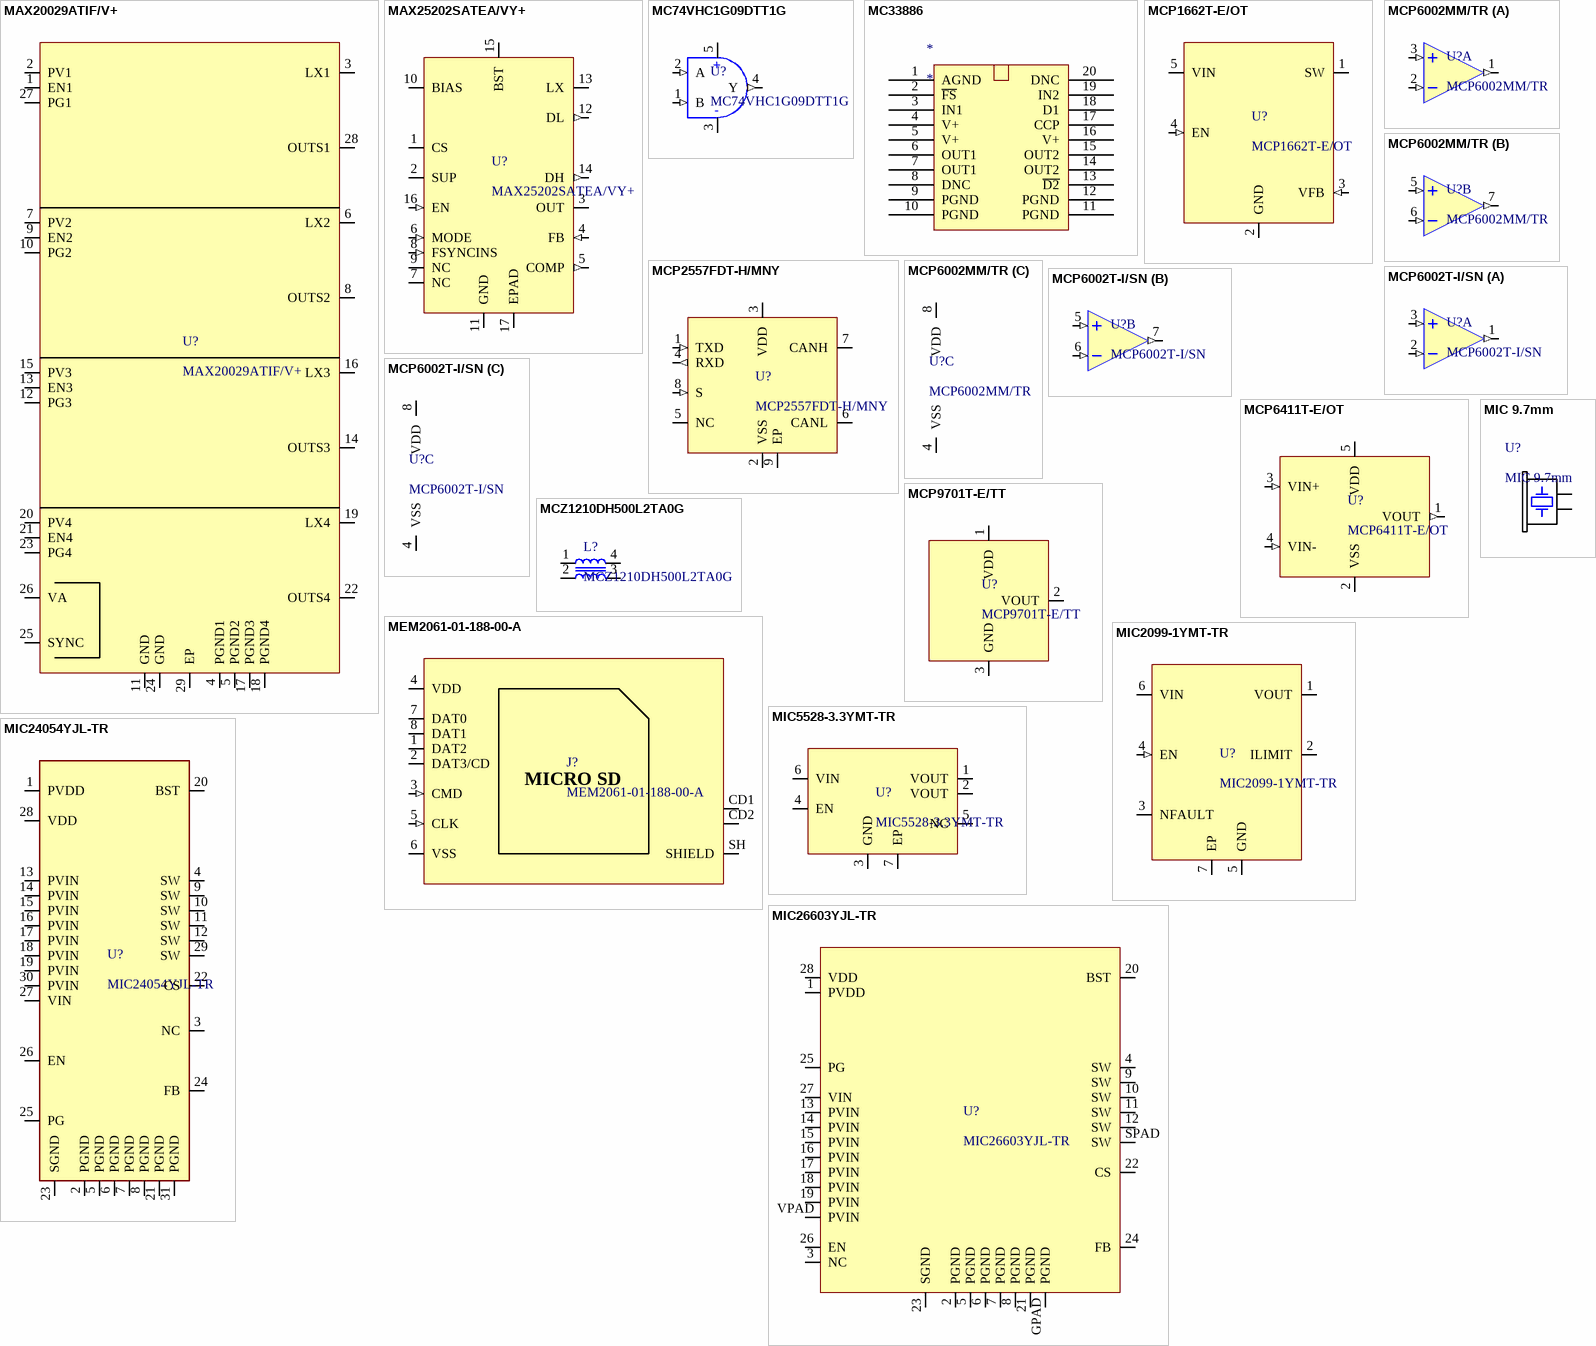
[diagram p18: symbols MAX20029ATIF/V+ to MIC 9.7mm]

## MAX20029ATIF/V+
designator U?
Switching Voltage Regulator Buck 4-Channel 700mV to 4V 1.5A TQFN-EP-28; Manufacturer: Maxim Integrated; Manufacturer Part Number: MAX20029ATIF/V+
footprint TQFN-28-5x5-EP (QFN, 28-Leads, Body 5.00x5.00mm, Pitch 0.50mm, Thermal Pad 2.70x2.70mm, IPC Medium Density)
pins: 1 EN1, 2 PV1, 3 LX1, 4 PGND1, 5 PGND2, 6 LX2, 7 PV2, 8 OUTS2, 9 EN2, 10 PG2, 11 GND, 12 PG3, 13 EN3, 14 OUTS3, 15 PV3, 16 LX3, 17 PGND3, 18 PGND4, 19 LX4, 20 PV4, 21 EN4, 22 OUTS4, 23 PG4, 24 GND, 25 SYNC, 26 VA, 27 PG1, 28 OUTS1, 29 EP

## MAX25202SATEA/VY+
designator U?
36V HV Synchronous Boost Controller for / Automotive Infotainment Applications; Manufacturer: Maxim Integrated; Manufacturer Part Number: MAX25202SATEA/VY+
footprint QFN50P300X300X80-17N
pins: 1 CS (power), 2 SUP (power), 3 OUT (power), 4 FB (in), 5 COMP (out), 6 MODE (in), 7 NC, 8 FSYNCINS (in), 9 NC, 10 BIAS (power), 11 GND (power), 12 DL (out), 13 LX (power), 14 DH (out), 15 BST (power), 16 EN (in), 17 EPAD (power)

## MC74VHC1G09DTT1G
designator U?
2-Input AND Gate with Open Drain Output; Manufacturer: onsemi; Manufacturer Part Number: MC74VHC1G09DTT1G; Distributor Link: https://eu.mouser.com/ProductDetail/onsemi/MC74VHC1G09DTT1G?qs=YOLdObVcOZlHcF2aq0TqEg%3D%3D
footprint TSOT25 (SOT23, 5-Leads, Body 2.90x2.80mm, Pitch 0.95mm, IPC Medium Density)
pins: 1 B (in), 2 A (in), 3 GND (power), 4 Y (out), 5 VCC (power)
text: +; -

## MC33886
designator *
footprint HSOP20 (SOP, 20-Leads, Body 15.90x11.00mm, Pitch 1.27mm, Thermal Pad 12.60x7.20mm, IPC Medium Density)
pins: 1 AGND, 2 ~{FS}, 3 IN1, 4 V+, 5 V+, 6 OUT1, 7 OUT1, 8 DNC, 9 PGND, 10 PGND, 11 PGND, 12 PGND, 13 ~{D2}, 14 OUT2, 15 OUT2, 16 V+, 17 CCP, 18 D1, 19 IN2, 20 DNC

## MCP1662T-E/OT
designator U?
High-Voltage Step-Up LED Driver with UVLO and Open Load Protection; Manufacturer: Microchip; Manufacturer Part Number: MCP1662T-E/OT; Distributor Link: https://www.mouser.de/ProductDetail/Microchip-Technology/MCP1662T-E-OT?qs=rQCxX1QmdjLP2YwxpS4WcQ%3D%3D
footprint SOT-23-5 (SOT23, 5-Leads, Body 2,90x2,80mm, Pitch 0,95mm, IPC Medium Density)
pins: 1 SW (power), 2 GND (power), 3 VFB (in), 4 EN (in), 5 VIN (power)

## MCP2557FDT-H/MNY
designator U?
CAN FD Transceiver with Silent Mode; Manufacturer: Microchip; Manufacturer Part Number: CAN FD Transceiver with Silent Mode
footprint TDFN-8
pins: 1 TXD (in), 2 VSS (power), 3 VDD (power), 4 RXD (out), 5 NC, 6 CANL (io), 7 CANH (io), 8 S (in), 9 EP (power)

## MCP6002MM/TR
designator U?
1MHZ CMOS Rail-to-Rail IO Opamp with RF Filter MSOP-8; Manufacturer: HGSEMI; Manufacturer Part Number: MCP6002MM/TR; LCSC: C910874
footprint SOIC-8 (SOIC, 8-Leads, Body 4.91x3.90mm, Pitch 1.27mm, IPC Medium Density)
footprint MSOP8 (TSOP, 8-Leads, Body 2.90x2.80mm, Pitch 0.65mm, IPC Medium Density)
part A pins: 1 1OUT (out), 2 1IN- (in), 3 1IN+ (in)
part B pins: 5 2IN+ (in), 6 2IN- (in), 7 2OUT (out)
part C pins: 4 VSS, 8 VDD

## MCP6002T-I/SN
designator U?
Dual Low-Power Rail-to-Rail Input/Output Operational Amplifiers; Manufacturer: Microchip; Manufacturer Part Number: MCP6002T-I/SN; Distributor Link: https://www.lcsc.com/product-detail/Operational-Amplifier_Microchip-Tech-MCP6002T-I-SN_C7377.html; LCSC: C7377
footprint SOIC-8 (SOIC, 8-Leads, Body 4.91x3.90mm, Pitch 1.27mm, IPC Medium Density)
part A pins: 1 1OUT (out), 2 1IN- (in), 3 1IN+ (in)
part B pins: 5 2IN+ (in), 6 2IN- (in), 7 2OUT (out)
part C pins: 4 VSS (power), 8 VDD (power)

## MCP6411T-E/OT
designator U?
Op Amp 1 MHz Rail-to-Rail Input/Output 1.7V to 5.5V 0.5V/us SOT-23-5; Manufacturer: Microchip; Manufacturer Part Number: MCP6411T-E/OT
footprint SOT-23-5 (SOT23, 5-Leads, Body 2,90x2,80mm, Pitch 0,95mm, IPC Medium Density)
pins: 1 VOUT (out), 2 VSS (power), 3 VIN+ (in), 4 VIN- (in), 5 VDD (power)

## MCP9701T-E/TT
designator U?
Temperature Sensor Analog -10 to +125 deg C SOT-23-3; Manufacturer: Microchip; Manufacturer Part Number: MCP9701T-E/TT
footprint SOT-23-3
pins: 1 VDD, 2 VOUT, 3 GND

## MCZ1210DH500L2TA0G
designator L?
Common Mode Chokes / Filters 0504 50ohms 2 Lines HDMI, DVI, USB3.0; Manufacturer: TDK; Manufacturer Part Number: MCZ1210DH500L2TA0G
footprint MCZ1210DH
pins: 1, 2, 3, 4

## MEM2061-01-188-00-A
designator J?
Micro SD Card Holder Push-Push SMD; Manufacturer: GCT; Manufacturer Part Number: MEM2061-01-188-00-A; Distributor Link: *; LCSC: *
footprint MEM2061-01-188-00-A
pins: 1 DAT2 (io), 2 DAT3/CD (io), 3 CMD (in), 4 VDD (power), 5 CLK (in), 6 VSS (power), 7 DAT0 (io), 8 DAT1 (io), CD1 CARD DETECT, CD2 CARD DETECT, SH SHIELD
text: MICRO SD

## MIC2099-1YMT-TR
designator U?
Power Distribution Switch Resistor programmable current limit / – 0.1A to 1.1A 2.5V-5.5V; Manufacturer: Microchip; Manufacturer Part Number: MIC2099-1YMT-TR
footprint TMLF-6-1_6X1_6
pins: 1 VOUT (power), 2 ILIMIT, 3 NFAULT (oc), 4 EN (in), 5 GND (power), 6 VIN (power), 7 EP (power)

## MIC5528-3.3YMT-TR
designator U?
LDO Regulator 3V3 500mA 2.5V<Vin<5.5V; Manufacturer: Microchip; Manufacturer Part Number: MIC5528-3.3YMT-TR
footprint TDFN-6
pins: 1 VOUT, 2 VOUT, 3 GND, 4 EN, 5 NC, 6 VIN, 7 EP

## MIC24054YJL-TR
designator U?
4.5V to 19V, 0.8V to 5.5V, 9A High-Efficiency Buck Regulator; Manufacturer: Microchip; Manufacturer Part Number: MIC24054YJL-TR; Distributor Link: https://www.mouser.de/ProductDetail/Microchip-Technology-Atmel/MIC24054YJL-TR?qs=sGAEpiMZZMsMIqGZiACxIQCf%2FabZxxCzJUqMyy24idqsoP9BnCxFEg%3D%3D
footprint QFN28-MIC24054YJLTR
pins: 1 PVDD, 2 PGND, 3 NC, 4 SW, 5 PGND, 6 PGND, 7 PGND, 8 PGND, 9 SW, 10 SW, 11 SW, 12 SW, 13 PVIN, 14 PVIN, 15 PVIN, 16 PVIN, 17 PVIN, 18 PVIN, 19 PVIN, 20 BST, 21 PGND, 22 CS, 23 SGND, 24 FB, 25 PG, 26 EN, 27 VIN, 28 VDD, 29 SW, 30 PVIN, 31 PGND

## MIC26603YJL-TR
designator U?
DC/DC Buck Regulator 28V, 6A; Manufacturer: Microchip; Manufacturer Part Number: MIC26603YJL-TR
footprint MIC26603YJL-TR
pins: 1 PVDD, 2 PGND, 3 NC, 4 SW, 5 PGND, 6 PGND, 7 PGND, 8 PGND, 9 SW, 10 SW, 11 SW, 12 SW, 13 PVIN, 14 PVIN, 15 PVIN, 16 PVIN, 17 PVIN, 18 PVIN, 19 PVIN, 20 BST, 21 PGND, 22 CS, 23 SGND, 24 FB, 25 PG, 26 EN, 27 VIN, 28 VDD, GPAD PGND, SPAD SW, VPAD PVIN

## MIC 9.7mm
designator U?
footprint Microphone Mini
pins: 1, 2

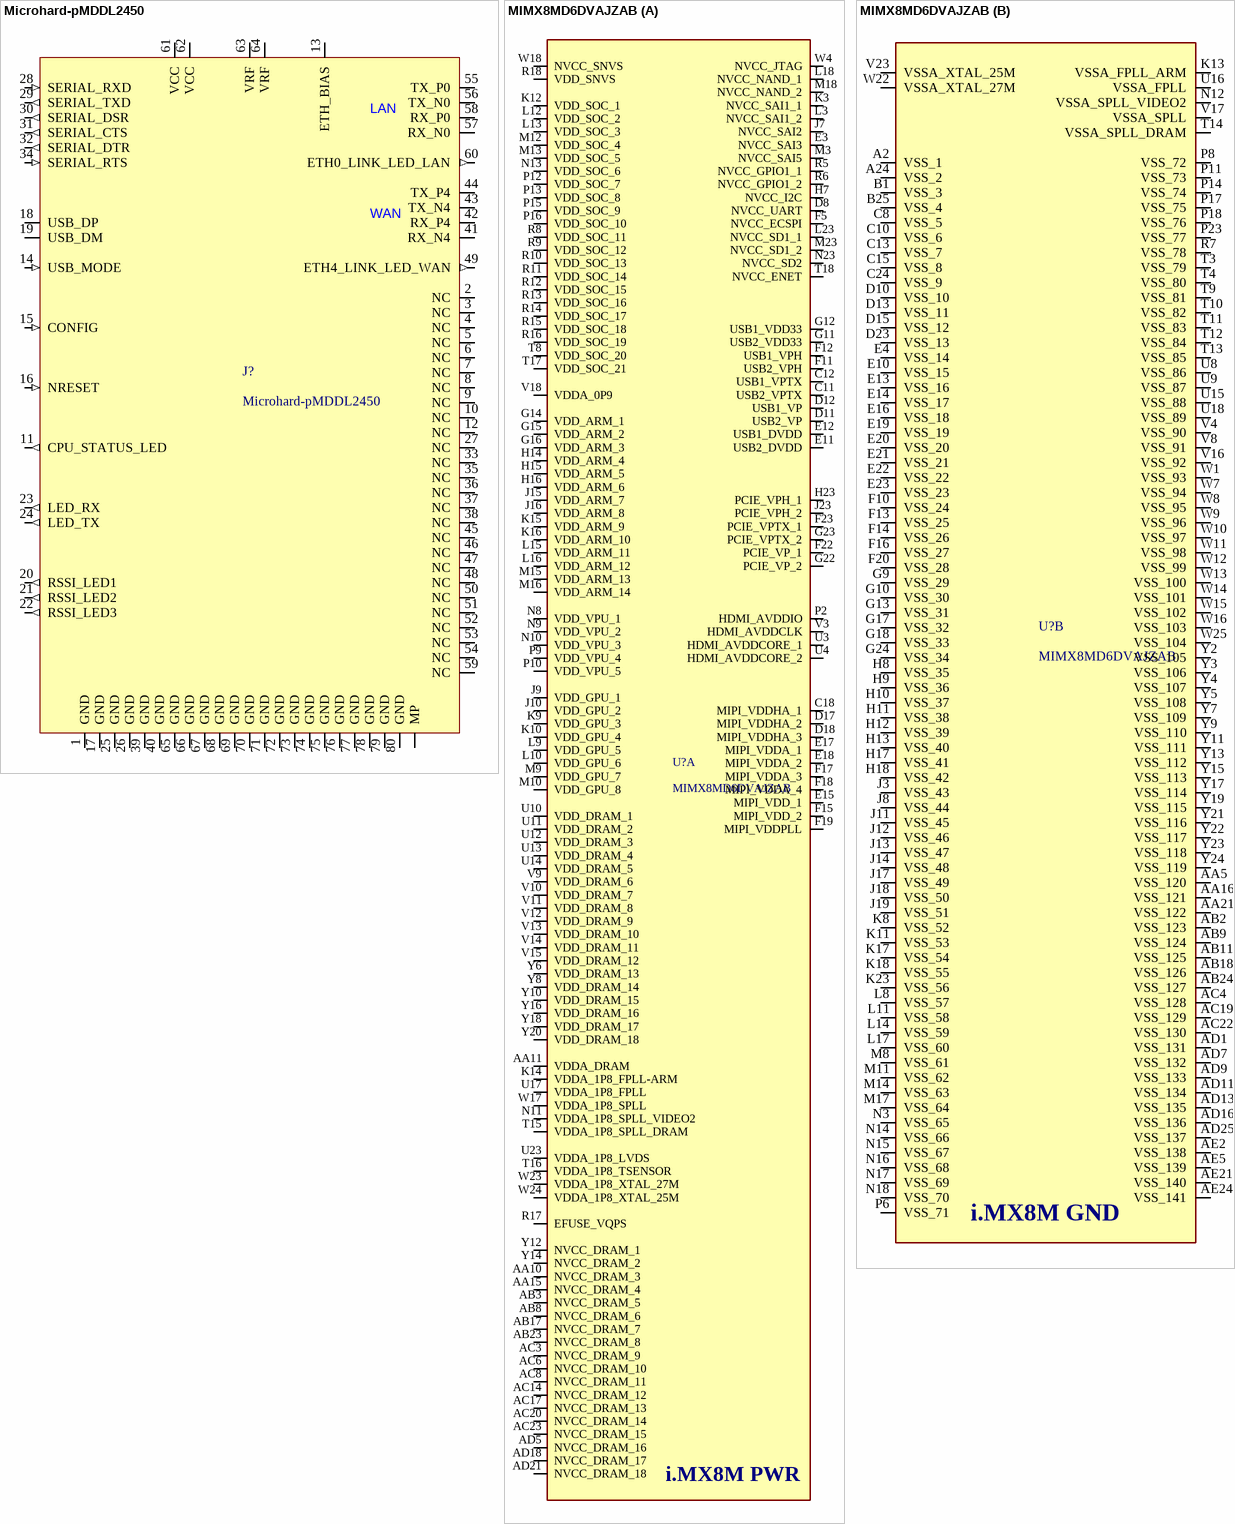
[diagram p19: symbols Microhard-pMDDL2450 to MIMX8MD6DVAJZAB]

## Microhard-pMDDL2450
designator J?
Microhard pMDDL2450 Module Socket; Manufacturer Part Number: pMDDL; Manufacturer: Microhard
footprint PMDDL
pins: 1 GND (power), 2 NC, 3 NC, 4 NC, 5 NC, 6 NC, 7 NC, 8 NC, 9 NC, 10 NC, 11 CPU_STATUS_LED (out), 12 NC, 13 ETH_BIAS (power), 14 USB_MODE (in), 15 CONFIG (in), 16 NRESET (in), 17 GND (power), 18 USB_DP (io), 19 USB_DM (io), 20 RSSI_LED1 (out), 21 RSSI_LED2 (out), 22 RSSI_LED3 (out), 23 LED_RX (out), 24 LED_TX (out), 25 GND (power), 26 GND (power), 27 NC, 28 SERIAL_RXD (in), 29 SERIAL_TXD (out), 30 SERIAL_DSR (out), 31 SERIAL_CTS (out), 32 SERIAL_DTR (out), 33 NC, 34 SERIAL_RTS (in), 35 NC, 36 NC, 37 NC, 38 NC, 39 GND (power), 40 GND (power), 41 RX_N4 (io), 42 RX_P4 (io), 43 TX_N4 (io), 44 TX_P4 (io), 45 NC, 46 NC, 47 NC, 48 NC, 49 ETH4_LINK_LED_WAN (out), 50 NC, 51 NC, 52 NC, 53 NC, 54 NC, 55 TX_P0 (io), 56 TX_N0 (io), 57 RX_N0 (io), 58 RX_P0 (io), 59 NC, 60 ETH0_LINK_LED_LAN (out), 61 VCC (power), 62 VCC (power), 63 VRF (power), 64 VRF (power), 65 GND (power), 66 GND (power), 67 GND (power), 68 GND (power), 69 GND (power), 70 GND (power), 71 GND (power), 72 GND (power), 73 GND (power), 74 GND (power), 75 GND (power), 76 GND (power), 77 GND (power), 78 GND (power), 79 GND (power), 80 GND (power), MP (power)
text: LAN; WAN

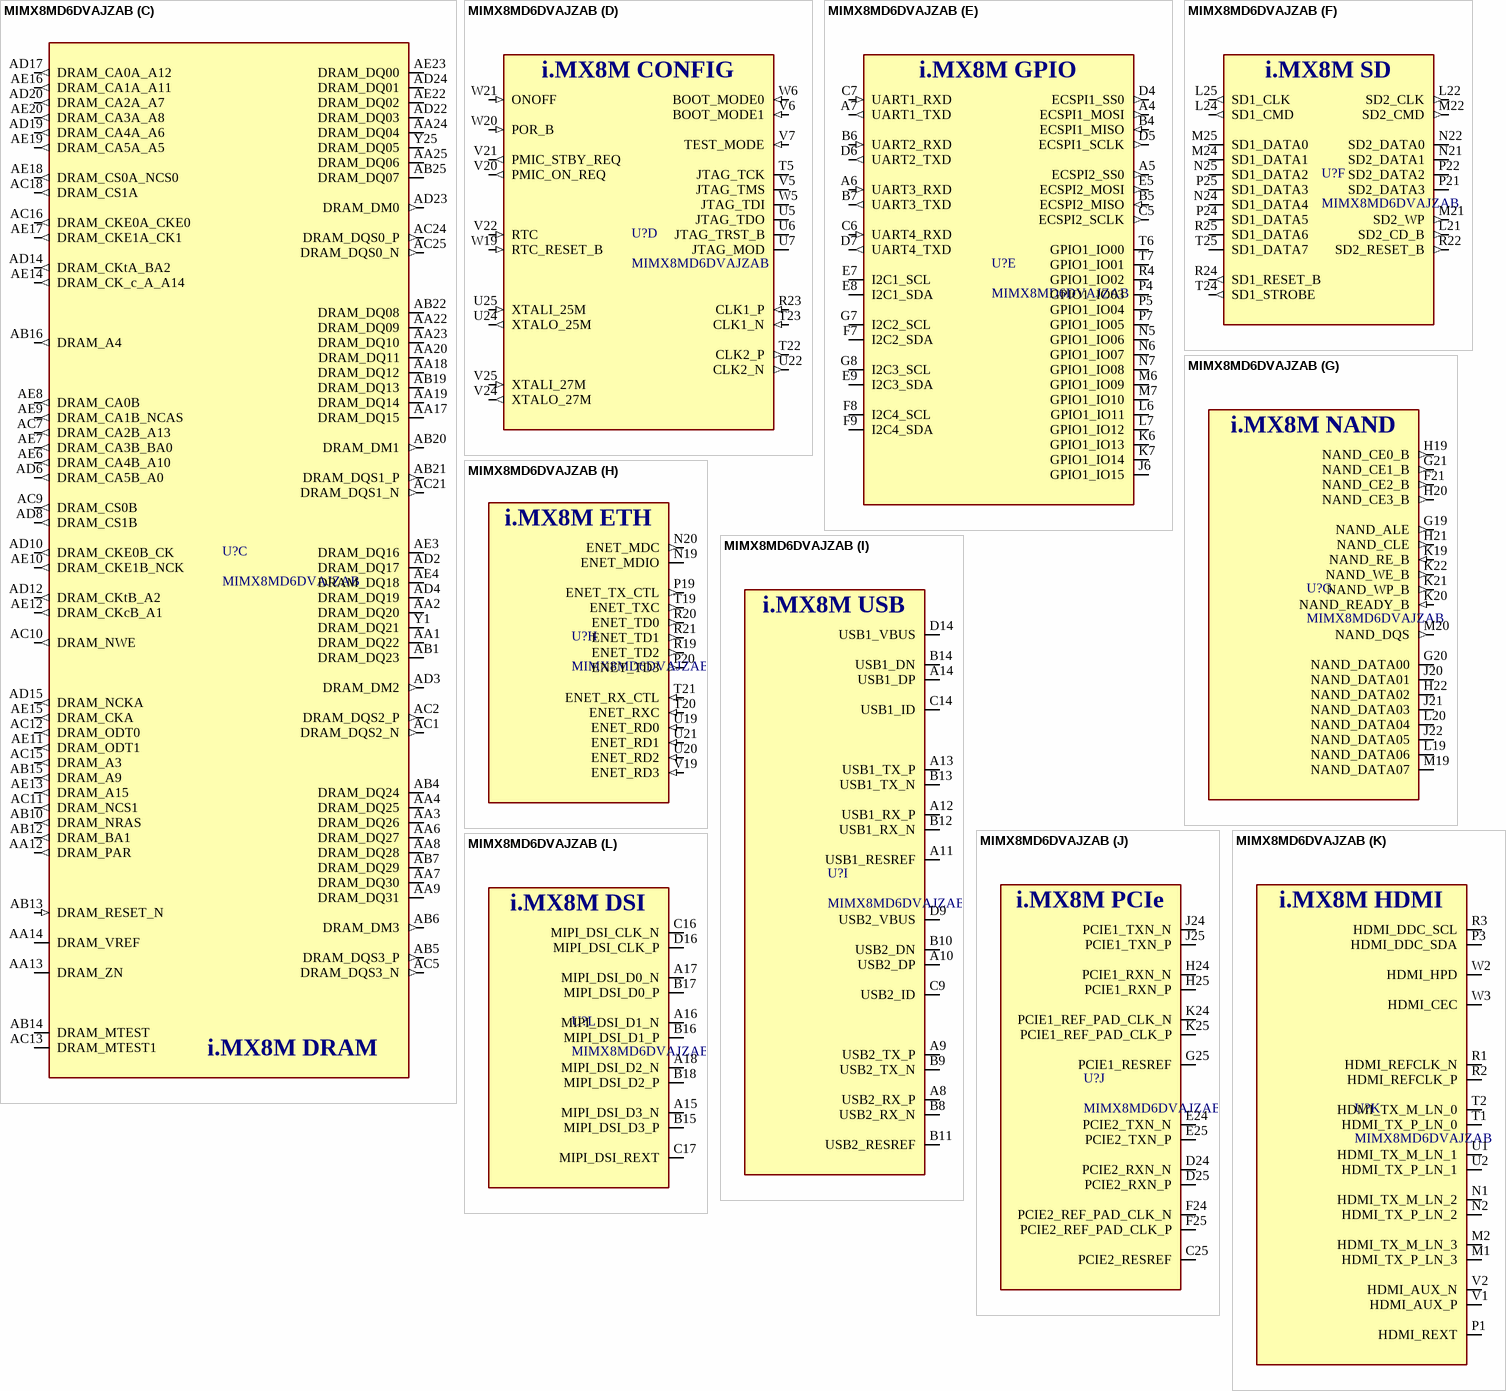
[diagram p20: symbol MIMX8MD6DVAJZAB]

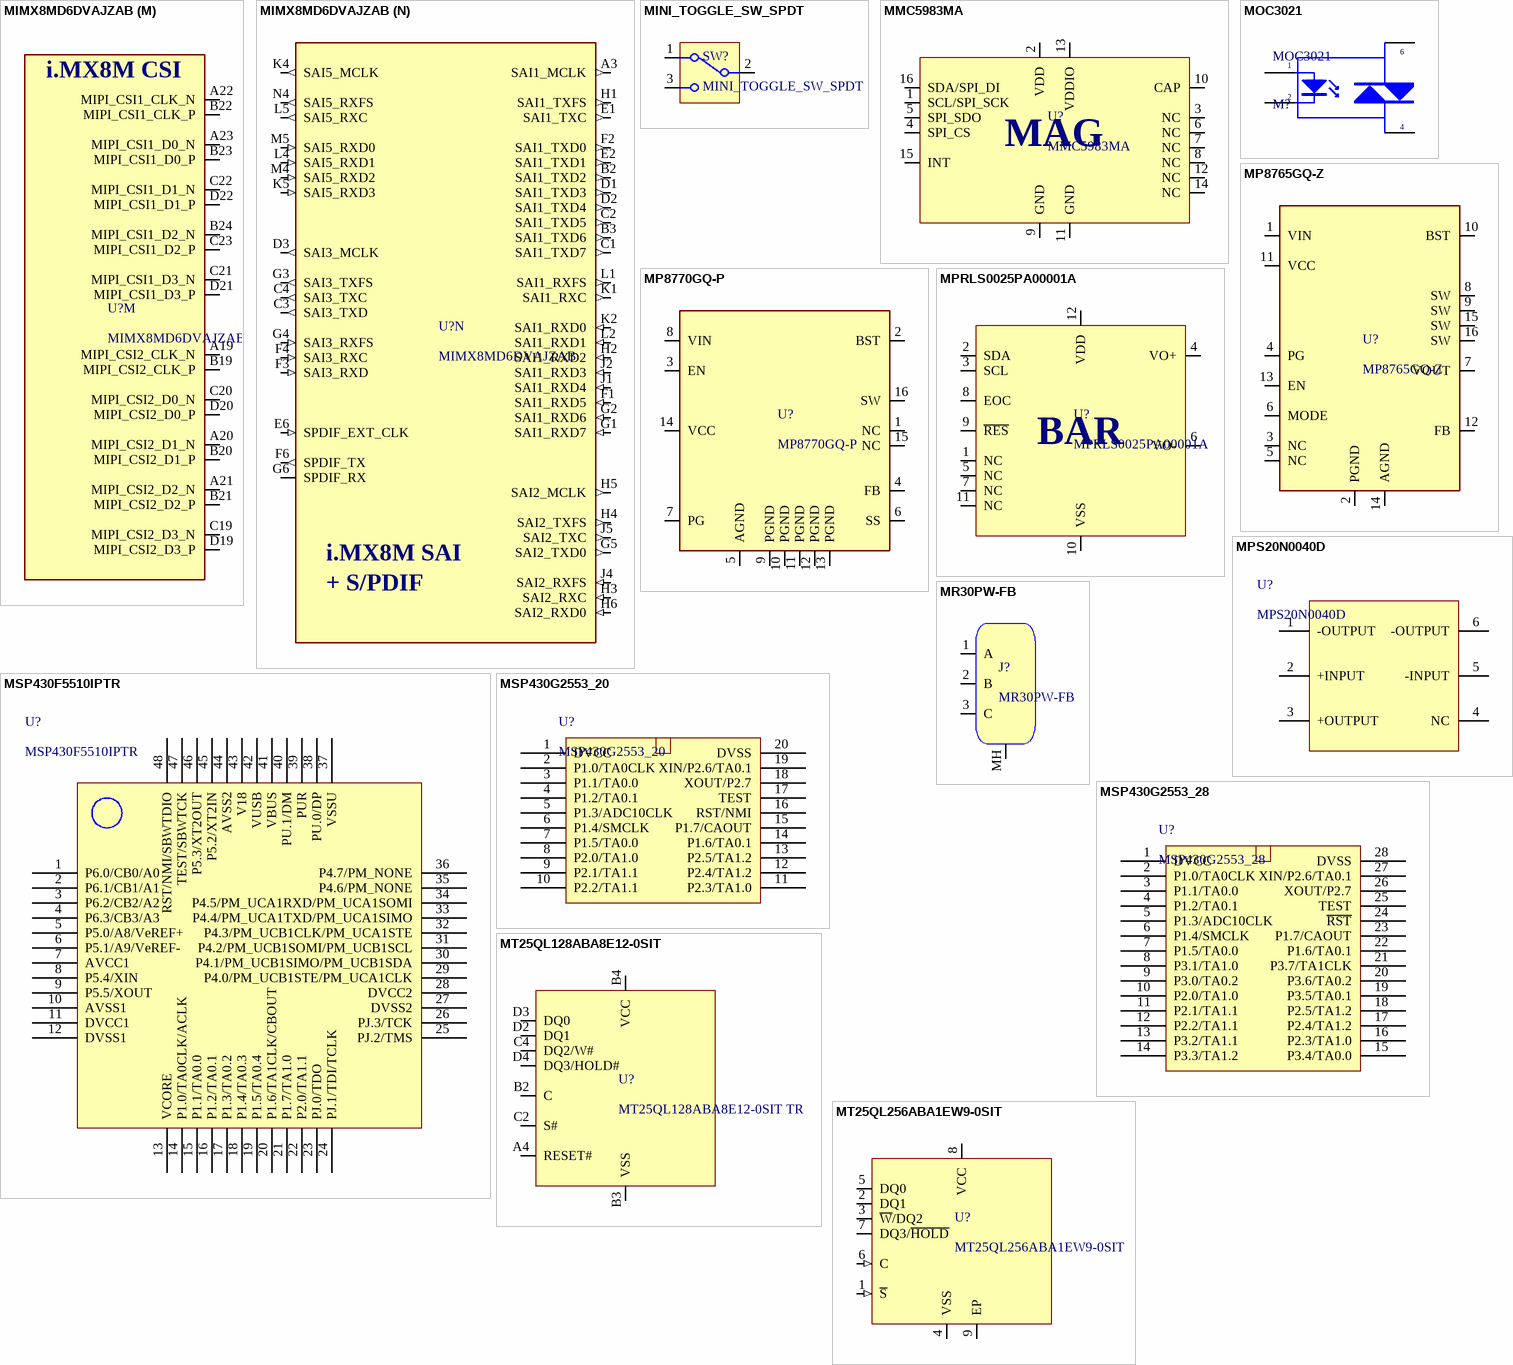
[diagram p21: symbols MIMX8MD6DVAJZAB to MT25QL256ABA1EW9-0SIT]

## MIMX8MD6DVAJZAB
designator U?
Microprocesor i.MX 8M Cortex-A53 1.5GHz Cortex-M4 FBGA-621; Manufacturer: NXP; Manufacturer Part Number: MIMX8MD6DVAJZAB; Distributor Link: https://eu.mouser.com/ProductDetail/NXP-Semiconductors/MIMX8MD6DVAJZAB?qs=byeeYqUIh0McEiqk4xmcPA%3D%3D
footprint BGA621-17X17-0MM65
part A pins: AA10 NVCC_DRAM_3, AA11 VDDA_DRAM, AA15 NVCC_DRAM_4, AB3 NVCC_DRAM_5, AB8 NVCC_DRAM_6, AB17 NVCC_DRAM_7, AB23 NVCC_DRAM_8, AC3 NVCC_DRAM_9, AC6 NVCC_DRAM_10, AC8 NVCC_DRAM_11, AC14 NVCC_DRAM_12, AC17 NVCC_DRAM_13, AC20 NVCC_DRAM_14, AC23 NVCC_DRAM_15, AD5 NVCC_DRAM_16, AD18 NVCC_DRAM_17, AD21 NVCC_DRAM_18, C11 USB2_VPTX, C12 USB1_VPTX, C18 MIPI_VDDHA_1, D8 NVCC_UART, D11 USB2_VP, D12 USB1_VP, D17 MIPI_VDDHA_2, D18 MIPI_VDDHA_3, E3 NVCC_SAI3, E11 USB2_DVDD, E12 USB1_DVDD, E15 MIPI_VDD_1, E17 MIPI_VDDA_1, E18 MIPI_VDDA_2, F5 NVCC_ECSPI, F11 USB2_VPH, F12 USB1_VPH, F15 MIPI_VDD_2, F17 MIPI_VDDA_3, F18 MIPI_VDDA_4, F19 MIPI_VDDPLL, F22 PCIE_VP_1, F23 PCIE_VPTX_1, G11 USB2_VDD33, G12 USB1_VDD33, G14 VDD_ARM_1, G15 VDD_ARM_2, G16 VDD_ARM_3, G22 PCIE_VP_2, G23 PCIE_VPTX_2, H7 NVCC_I2C, H14 VDD_ARM_4, H15 VDD_ARM_5, H16 VDD_ARM_6, H23 PCIE_VPH_1, J7 NVCC_SAI2, J9 VDD_GPU_1, J10 VDD_GPU_2, J15 VDD_ARM_7, J16 VDD_ARM_8, J23 PCIE_VPH_2, K3 NVCC_SAI1_1, K9 VDD_GPU_3, K10 VDD_GPU_4, K12 VDD_SOC_1, K14 VDDA_1P8_FPLL-ARM, K15 VDD_ARM_9, K16 VDD_ARM_10, L3 NVCC_SAI1_2, L9 VDD_GPU_5, L10 VDD_GPU_6, L12 VDD_SOC_2, L13 VDD_SOC_3, L15 VDD_ARM_11, L16 VDD_ARM_12, L18 NVCC_NAND_1, L23 NVCC_SD1_1, M3 NVCC_SAI5, M9 VDD_GPU_7, M10 VDD_GPU_8, M12 VDD_SOC_4, M13 VDD_SOC_5, M15 VDD_ARM_13, M16 VDD_ARM_14, M18 NVCC_NAND_2, M23 NVCC_SD1_2, N8 VDD_VPU_1, N9 VDD_VPU_2, N10 VDD_VPU_3, N11 VDDA_1P8_SPLL_VIDEO2, N13 VDD_SOC_6, N23 NVCC_SD2, P2 HDMI_AVDDIO, P9 VDD_VPU_4, P10 VDD_VPU_5, P12 VDD_SOC_7, P13 VDD_SOC_8, P15 VDD_SOC_9, P16 VDD_SOC_10, R5 NVCC_GPIO1_1, R6 NVCC_GPIO1_2, R8 VDD_SOC_11, R9 VDD_SOC_12, R10 VDD_SOC_13, R11 VDD_SOC_14, R12 VDD_SOC_15, R13 VDD_SOC_16, R14 VDD_SOC_17, R15 VDD_SOC_18, R16 VDD_SOC_19, R17 EFUSE_VQPS, R18 VDD_SNVS, T8 VDD_SOC_20, T15 VDDA_1P8_SPLL_DRAM, T16 VDDA_1P8_TSENSOR, T17 VDD_SOC_21, T18 NVCC_ENET, U3 HDMI_AVDDCORE_1, U4 HDMI_AVDDCORE_2, U10 VDD_DRAM_1, U11 VDD_DRAM_2, U12 VDD_DRAM_3, U13 VDD_DRAM_4, U14 VDD_DRAM_5, U17 VDDA_1P8_FPLL, U23 VDDA_1P8_LVDS, V3 HDMI_AVDDCLK, V9 VDD_DRAM_6, V10 VDD_DRAM_7, V11 VDD_DRAM_8, V12 VDD_DRAM_9, V13 VDD_DRAM_10, V14 VDD_DRAM_11, V15 VDD_DRAM_12, V18 VDDA_0P9, W4 NVCC_JTAG, W17 VDDA_1P8_SPLL, W18 NVCC_SNVS, W23 VDDA_1P8_XTAL_27M, W24 VDDA_1P8_XTAL_25M, Y6 VDD_DRAM_13, Y8 VDD_DRAM_14, Y10 VDD_DRAM_15, Y12 NVCC_DRAM_1, Y14 NVCC_DRAM_2, Y16 VDD_DRAM_16, Y18 VDD_DRAM_17, Y20 VDD_DRAM_18
part B pins: A2 VSS_1 (power), A24 VSS_2 (power), AA5 VSS_120 (power), AA16 VSS_121 (power), AA21 VSS_122 (power), AB2 VSS_123 (power), AB9 VSS_124 (power), AB11 VSS_125 (power), AB18 VSS_126 (power), AB24 VSS_127 (power), AC4 VSS_128 (power), AC19 VSS_129 (power), AC22 VSS_130 (power), AD1 VSS_131 (power), AD7 VSS_132 (power), AD9 VSS_133 (power), AD11 VSS_134 (power), AD13 VSS_135 (power), AD16 VSS_136 (power), AD25 VSS_137 (power), AE2 VSS_138 (power), AE5 VSS_139 (power), AE21 VSS_140 (power), AE24 VSS_141 (power), B1 VSS_3 (power), B25 VSS_4 (power), C8 VSS_5 (power), C10 VSS_6 (power), C13 VSS_7 (power), C15 VSS_8 (power), C24 VSS_9 (power), D10 VSS_10 (power), D13 VSS_11 (power), D15 VSS_12 (power), D23 VSS_13 (power), E4 VSS_14 (power), E10 VSS_15 (power), E13 VSS_16 (power), E14 VSS_17 (power), E16 VSS_18 (power), E19 VSS_19 (power), E20 VSS_20 (power), E21 VSS_21 (power), E22 VSS_22 (power), E23 VSS_23 (power), F10 VSS_24 (power), F13 VSS_25 (power), F14 VSS_26 (power), F16 VSS_27 (power), F20 VSS_28 (power), G9 VSS_29 (power), G10 VSS_30 (power), G13 VSS_31 (power), G17 VSS_32 (power), G18 VSS_33 (power), G24 VSS_34 (power), H8 VSS_35 (power), H9 VSS_36 (power), H10 VSS_37 (power), H11 VSS_38 (power), H12 VSS_39 (power), H13 VSS_40 (power), H17 VSS_41 (power), H18 VSS_42 (power), J3 VSS_43 (power), J8 VSS_44 (power), J11 VSS_45 (power), J12 VSS_46 (power), J13 VSS_47 (power), J14 VSS_48 (power), J17 VSS_49 (power), J18 VSS_50 (power), J19 VSS_51 (power), K8 VSS_52 (power), K11 VSS_53 (power), K13 VSSA_FPLL_ARM (power), K17 VSS_54 (power), K18 VSS_55 (power), K23 VSS_56 (power), L8 VSS_57 (power), L11 VSS_58 (power), L14 VSS_59 (power), L17 VSS_60 (power), M8 VSS_61 (power), M11 VSS_62 (power), M14 VSS_63 (power), M17 VSS_64 (power), N3 VSS_65 (power), N12 VSSA_SPLL_VIDEO2 (power), N14 VSS_66 (power), N15 VSS_67 (power), N16 VSS_68 (power), N17 VSS_69 (power), N18 VSS_70 (power), P6 VSS_71 (power), P8 VSS_72 (power), P11 VSS_73 (power), P14 VSS_74 (power), P17 VSS_75 (power), P18 VSS_76 (power), P23 VSS_77 (power), R7 VSS_78 (power), T3 VSS_79 (power), T4 VSS_80 (power), T9 VSS_81 (power), T10 VSS_82 (power), T11 VSS_83 (power), T12 VSS_84 (power), T13 VSS_85 (power), T14 VSSA_SPLL_DRAM (power), U8 VSS_86 (power), U9 VSS_87 (power), U15 VSS_88 (power), U16 VSSA_FPLL (power), U18 VSS_89 (power), V4 VSS_90 (power), V8 VSS_91 (power), V16 VSS_92 (power), V17 VSSA_SPLL (power), V23 VSSA_XTAL_25M (power), W1 VSS_93 (power), W7 VSS_94 (power), W8 VSS_95 (power), W9 VSS_96 (power), W10 VSS_97 (power), W11 VSS_98 (power), W12 VSS_99 (power), W13 VSS_100 (power), W14 VSS_101 (power), W15 VSS_102 (power), W16 VSS_103 (power), W22 VSSA_XTAL_27M (power), W25 VSS_104 (power), Y2 VSS_105 (power), Y3 VSS_106 (power), Y4 VSS_107 (power), Y5 VSS_108 (power), Y7 VSS_109 (power), Y9 VSS_110 (power), Y11 VSS_111 (power), Y13 VSS_112 (power), Y15 VSS_113 (power), Y17 VSS_114 (power), Y19 VSS_115 (power), Y21 VSS_116 (power), Y22 VSS_117 (power), Y23 VSS_118 (power), Y24 VSS_119 (power)
part C pins: AA1 DRAM_DQ22 (io), AA2 DRAM_DQ20 (io), AA3 DRAM_DQ26 (io), AA4 DRAM_DQ25 (io), AA6 DRAM_DQ27 (io), AA7 DRAM_DQ30 (io), AA8 DRAM_DQ28 (io), AA9 DRAM_DQ31 (io), AA12 DRAM_PAR (out), AA13 DRAM_ZN, AA14 DRAM_VREF, AA17 DRAM_DQ15 (io), AA18 DRAM_DQ12 (io), AA19 DRAM_DQ14 (io), AA20 DRAM_DQ11 (io), AA22 DRAM_DQ09 (io), AA23 DRAM_DQ10 (io), AA24 DRAM_DQ04 (io), AA25 DRAM_DQ06 (io), AB1 DRAM_DQ23 (io), AB4 DRAM_DQ24 (io), AB5 DRAM_DQS3_P (out), AB6 DRAM_DM3 (out), AB7 DRAM_DQ29 (io), AB10 DRAM_NRAS (out), AB12 DRAM_BA1 (out), AB13 DRAM_RESET_N (in), AB14 DRAM_MTEST, AB15 DRAM_A9 (out), AB16 DRAM_A4 (out), AB19 DRAM_DQ13 (io), AB20 DRAM_DM1 (out), AB21 DRAM_DQS1_P (out), AB22 DRAM_DQ08 (io), AB25 DRAM_DQ07 (io), AC1 DRAM_DQS2_N (out), AC2 DRAM_DQS2_P (out), AC5 DRAM_DQS3_N (out), AC7 DRAM_CA2B_A13 (out), AC9 DRAM_CS0B (out), AC10 DRAM_NWE (out), AC11 DRAM_NCS1 (out), AC12 DRAM_ODT0 (out), AC13 DRAM_MTEST1, AC15 DRAM_A3 (out), AC16 DRAM_CKE0A_CKE0 (out), AC18 DRAM_CS1A (out), AC21 DRAM_DQS1_N (out), AC24 DRAM_DQS0_P (out), AC25 DRAM_DQS0_N (out), AD2 DRAM_DQ17 (io), AD3 DRAM_DM2 (out), AD4 DRAM_DQ19 (io), AD6 DRAM_CA5B_A0 (out), AD8 DRAM_CS1B (out), AD10 DRAM_CKE0B_CK (out), AD12 DRAM_CKtB_A2 (out), AD14 DRAM_CKtA_BA2 (out), AD15 DRAM_NCKA (out), AD17 DRAM_CA0A_A12 (out), AD19 DRAM_CA4A_A6 (out), AD20 DRAM_CA2A_A7 (out), AD22 DRAM_DQ03 (io), AD23 DRAM_DM0 (out), AD24 DRAM_DQ01 (io), AE3 DRAM_DQ16 (io), AE4 DRAM_DQ18 (io), AE6 DRAM_CA4B_A10 (out), AE7 DRAM_CA3B_BA0 (out), AE8 DRAM_CA0B (out), AE9 DRAM_CA1B_NCAS (out), AE10 DRAM_CKE1B_NCK (out), AE11 DRAM_ODT1 (out), AE12 DRAM_CKcB_A1 (out), AE13 DRAM_A15 (out), AE14 DRAM_CK_c_A_A14 (out), AE15 DRAM_CKA (out), AE16 DRAM_CA1A_A11 (out), AE17 DRAM_CKE1A_CK1 (out), AE18 DRAM_CS0A_NCS0 (out), AE19 DRAM_CA5A_A5 (out), AE20 DRAM_CA3A_A8 (out), AE22 DRAM_DQ02 (io), AE23 DRAM_DQ00 (io), Y1 DRAM_DQ21 (io), Y25 DRAM_DQ05 (io)
part D pins: R23 CLK1_P (in), T5 JTAG_TCK, T22 CLK2_P (out), T23 CLK1_N (in), U5 JTAG_TDO, U6 JTAG_TRST_B, U7 JTAG_MOD, U22 CLK2_N (out), U24 XTALO_25M (out), U25 XTALI_25M (in), V5 JTAG_TMS, V6 BOOT_MODE1 (in), V7 TEST_MODE (in), V20 PMIC_ON_REQ (out), V21 PMIC_STBY_REQ (out), V22 RTC (in), V24 XTALO_27M (out), V25 XTALI_27M (in), W5 JTAG_TDI, W6 BOOT_MODE0 (in), W19 RTC_RESET_B (in), W20 POR_B (in), W21 ONOFF (in)
part E pins: A4 ECSPI1_MOSI (out), A5 ECSPI2_SS0 (out), A6 UART3_RXD (in), A7 UART1_TXD (out), B4 ECSPI1_MISO (in), B5 ECSPI2_MISO (in), B6 UART2_RXD (in), B7 UART3_TXD (out), C5 ECSPI2_SCLK (out), C6 UART4_RXD (in), C7 UART1_RXD (in), D4 ECSPI1_SS0 (out), D5 ECSPI1_SCLK (out), D6 UART2_TXD (out), D7 UART4_TXD (out), E5 ECSPI2_MOSI (out), E7 I2C1_SCL (io), E8 I2C1_SDA (io), E9 I2C3_SDA (io), F7 I2C2_SDA (io), F8 I2C4_SCL (io), F9 I2C4_SDA (io), G7 I2C2_SCL (io), G8 I2C3_SCL (io), J6 GPIO1_IO15 (io), K6 GPIO1_IO13 (io), K7 GPIO1_IO14 (io), L6 GPIO1_IO11 (io), L7 GPIO1_IO12 (io), M6 GPIO1_IO09 (io), M7 GPIO1_IO10 (io), N5 GPIO1_IO06 (io), N6 GPIO1_IO07 (io), N7 GPIO1_IO08 (io), P4 GPIO1_IO03 (io), P5 GPIO1_IO04 (io), P7 GPIO1_IO05 (io), R4 GPIO1_IO02 (io), T6 GPIO1_IO00 (io), T7 GPIO1_IO01 (io)
part F pins: L21 SD2_CD_B (out), L22 SD2_CLK (out), L24 SD1_CMD (out), L25 SD1_CLK (out), M21 SD2_WP (out), M22 SD2_CMD (out), M24 SD1_DATA1 (io), M25 SD1_DATA0 (io), N21 SD2_DATA1 (io), N22 SD2_DATA0 (io), N24 SD1_DATA4 (io), N25 SD1_DATA2 (io), P21 SD2_DATA3 (io), P22 SD2_DATA2 (io), P24 SD1_DATA5 (io), P25 SD1_DATA3 (io), R22 SD2_RESET_B (out), R24 SD1_RESET_B (out), R25 SD1_DATA6 (io), T24 SD1_STROBE (out), T25 SD1_DATA7 (io)
part G pins: F21 NAND_CE2_B (out), G19 NAND_ALE (out), G20 NAND_DATA00 (io), G21 NAND_CE1_B (out), H19 NAND_CE0_B (out), H20 NAND_CE3_B (out), H21 NAND_CLE (out), H22 NAND_DATA02 (io), J20 NAND_DATA01 (io), J21 NAND_DATA03 (io), J22 NAND_DATA05 (io), K19 NAND_RE_B (in), K20 NAND_READY_B (in), K21 NAND_WP_B (out), K22 NAND_WE_B (out), L19 NAND_DATA06 (io), L20 NAND_DATA04 (io), M19 NAND_DATA07 (io), M20 NAND_DQS (out)
part H pins: N19 ENET_MDIO (io), N20 ENET_MDC (out), P19 ENET_TX_CTL (out), P20 ENET_TD3 (out), R19 ENET_TD2 (out), R20 ENET_TD0 (out), R21 ENET_TD1 (out), T19 ENET_TXC (out), T20 ENET_RXC (in), T21 ENET_RX_CTL (in), U19 ENET_RD0 (in), U20 ENET_RD2 (in), U21 ENET_RD1 (in), V19 ENET_RD3 (in)
part I pins: A8 USB2_RX_P, A9 USB2_TX_P, A10 USB2_DP, A11 USB1_RESREF, A12 USB1_RX_P, A13 USB1_TX_P, A14 USB1_DP, B8 USB2_RX_N, B9 USB2_TX_N, B10 USB2_DN, B11 USB2_RESREF, B12 USB1_RX_N, B13 USB1_TX_N, B14 USB1_DN, C9 USB2_ID, C14 USB1_ID, D9 USB2_VBUS, D14 USB1_VBUS
part J pins: C25 PCIE2_RESREF, D24 PCIE2_RXN_N, D25 PCIE2_RXN_P, E24 PCIE2_TXN_N, E25 PCIE2_TXN_P, F24 PCIE2_REF_PAD_CLK_N, F25 PCIE2_REF_PAD_CLK_P, G25 PCIE1_RESREF, H24 PCIE1_RXN_N, H25 PCIE1_RXN_P, J24 PCIE1_TXN_N, J25 PCIE1_TXN_P, K24 PCIE1_REF_PAD_CLK_N, K25 PCIE1_REF_PAD_CLK_P
part K pins: M1 HDMI_TX_P_LN_3, M2 HDMI_TX_M_LN_3, N1 HDMI_TX_M_LN_2, N2 HDMI_TX_P_LN_2, P1 HDMI_REXT, P3 HDMI_DDC_SDA, R1 HDMI_REFCLK_N, R2 HDMI_REFCLK_P, R3 HDMI_DDC_SCL, T1 HDMI_TX_P_LN_0, T2 HDMI_TX_M_LN_0, U1 HDMI_TX_M_LN_1, U2 HDMI_TX_P_LN_1, V1 HDMI_AUX_P, V2 HDMI_AUX_N, W2 HDMI_HPD, W3 HDMI_CEC
part L pins: A15 MIPI_DSI_D3_N, A16 MIPI_DSI_D1_N, A17 MIPI_DSI_D0_N, A18 MIPI_DSI_D2_N, B15 MIPI_DSI_D3_P, B16 MIPI_DSI_D1_P, B17 MIPI_DSI_D0_P, B18 MIPI_DSI_D2_P, C16 MIPI_DSI_CLK_N, C17 MIPI_DSI_REXT, D16 MIPI_DSI_CLK_P
part M pins: A19 MIPI_CSI2_CLK_N, A20 MIPI_CSI2_D1_N, A21 MIPI_CSI2_D2_N, A22 MIPI_CSI1_CLK_N, A23 MIPI_CSI1_D0_N, B19 MIPI_CSI2_CLK_P, B20 MIPI_CSI2_D1_P, B21 MIPI_CSI2_D2_P, B22 MIPI_CSI1_CLK_P, B23 MIPI_CSI1_D0_P, B24 MIPI_CSI1_D2_N, C19 MIPI_CSI2_D3_N, C20 MIPI_CSI2_D0_N, C21 MIPI_CSI1_D3_N, C22 MIPI_CSI1_D1_N, C23 MIPI_CSI1_D2_P, D19 MIPI_CSI2_D3_P, D20 MIPI_CSI2_D0_P, D21 MIPI_CSI1_D3_P, D22 MIPI_CSI1_D1_P
part N pins: A3 SAI1_MCLK (out), B2 SAI1_TXD2 (out), B3 SAI1_TXD6 (out), C1 SAI1_TXD7 (out), C2 SAI1_TXD5 (out), C3 SAI3_TXD (out), C4 SAI3_TXC (out), D1 SAI1_TXD3 (out), D2 SAI1_TXD4 (out), D3 SAI3_MCLK (out), E1 SAI1_TXC (out), E2 SAI1_TXD1 (out), E6 SPDIF_EXT_CLK (in), F1 SAI1_RXD5 (in), F2 SAI1_TXD0 (out), F3 SAI3_RXD (in), F4 SAI3_RXC (in), F6 SPDIF_TX (out), G1 SAI1_RXD7 (in), G2 SAI1_RXD6 (in), G3 SAI3_TXFS (out), G4 SAI3_RXFS (in), G5 SAI2_TXD0 (out), G6 SPDIF_RX, H1 SAI1_TXFS (out), H2 SAI1_RXD2 (in), H3 SAI2_RXC (in), H4 SAI2_TXFS (out), H5 SAI2_MCLK (out), H6 SAI2_RXD0 (in), J1 SAI1_RXD4 (in), J2 SAI1_RXD3 (in), J4 SAI2_RXFS (in), J5 SAI2_TXC (out), K1 SAI1_RXC (out), K2 SAI1_RXD0 (in), K4 SAI5_MCLK (out), K5 SAI5_RXD3 (in), L1 SAI1_RXFS (out), L2 SAI1_RXD1 (in), L4 SAI5_RXD1 (in), L5 SAI5_RXC (out), M4 SAI5_RXD2 (in), M5 SAI5_RXD0 (in), N4 SAI5_RXFS (out)
part A text: i.MX8M PWR
part B text: i.MX8M GND
part C text: i.MX8M DRAM
part D text: i.MX8M CONFIG
part E text: i.MX8M GPIO
part F text: i.MX8M SD
part G text: i.MX8M NAND
part H text: i.MX8M ETH
part I text: i.MX8M USB
part J text: i.MX8M PCIe
part K text: i.MX8M HDMI
part L text: i.MX8M DSI
part M text: i.MX8M CSI
part N text: i.MX8M SAI; + S/PDIF

## MINI_TOGGLE_SW_SPDT
designator SW?
Mini Toggle Switch SPDT THT
footprint MINI_TOGGLE_SW_SPDT
pins: 1, 2 COM, 3

## MMC5983MA
designator U?
±8 Gauss, High Performance 3-axis Magnetic Sensor I2C/SPI; Manufacturer: MEMSIC; Manufacturer Part Number: MMC5983MA
footprint MMC5983MA-LGA
pins: 1 SCL/SPI_SCK, 2 VDD, 3 NC, 4 SPI_CS, 5 SPI_SDO, 6 NC, 7 NC, 8 NC, 9 GND, 10 CAP, 11 GND, 12 NC, 13 VDDIO, 14 NC, 15 INT, 16 SDA/SPI_DI
text: MAG

## MOC3021
designator M?
Value: TLP5211
footprint DIP 6 (6 PIN, W 300mil, Pin to pin 100mil)
pins: 1 A "Anode", 2 K "Cathode", 4 T, 6 T

## MP8765GQ-Z
designator U?
24V, 6A 500kHz High Efficiency Synchronous Step-down Converter; Manufacturer: MPS; Manufacturer Part Number: MIC24054YJL-TR; Distributor Link: https://www.mouser.de/ProductDetail/Monolithic-Power-Systems-MPS/MP8765GQ-Z?qs=sGAEpiMZZMsMIqGZiACxIbB7TMDfpY7yaU%252B6KH2iNJKGRJEoJj7Lfg%3D%3D
footprint QFN16-3x3-MP8765GQ
pins: 1 VIN, 2 PGND, 3 NC, 4 PG, 5 NC, 6 MODE, 7 VOUT, 8 SW, 9 SW, 10 BST, 11 VCC, 12 FB, 13 EN, 14 AGND, 15 SW, 16 SW

## MP8770GQ-P
designator U?
17V, 8A, 700kHz, High-Efficiency, Synchronous, Step-Down Converter; Manufacturer: MPS; Manufacturer Part Number: MP8770GQ-P; Distributor Link: https://www.mouser.de/ProductDetail/Monolithic-Power-Systems-MPS/MP8770GQ-P?qs=sGAEpiMZZMsMIqGZiACxIY79W%2FZ1FL4F8MuKM7Lvm3Hqk43cfQYG9A%3D%3D
footprint MP8770GQ-P
pins: 1 NC, 2 BST, 3 EN, 4 FB, 5 AGND, 6 SS, 7 PG, 8 VIN, 9 PGND, 10 PGND, 11 PGND, 12 PGND, 13 PGND, 14 VCC, 15 NC, 16 SW

## MPRLS0025PA00001A
designator U?
Board Mount Absolute Pressure Sensor Honeywell I2C 0 to 25 psi; Manufacturer: Honeywell; Manufacturer Part Number: MPRLS0025PA00001A
footprint MPR-SMD-12
pins: 1 NC, 2 SDA, 3 SCL, 4 VO+, 5 NC, 6 VO-, 7 NC, 8 EOC, 9 ~{RES}, 10 VSS, 11 NC, 12 VDD
text: BAR

## MPS20N0040D
designator U?
footprint MPS20N0040D-S
pins: 1 -OUTPUT, 2 +INPUT, 3 +OUTPUT, 4 NC, 5 -INPUT, 6 -OUTPUT

## MR30PW-FB
designator J?
MR30 Connector Female 3 Position THT PCB-Mount 15A; Manufacturer: AMASS; Manufacturer Part Number: MR30PW-FB
footprint MR30PW-FB
pins: 1 A, 2 B, 3 C, MH

## MSP430F5510IPTR
designator U?
footprint MSP430F5510IPTR (TSQFP, 48-Leads, Body 9.2x9.2mm (max), Pitch 0.50mm, IPC Medium Density)
pins: 1 P6.0/CB0/A0, 2 P6.1/CB1/A1, 3 P6.2/CB2/A2, 4 P6.3/CB3/A3, 5 P5.0/A8/VeREF+, 6 P5.1/A9/VeREF-, 7 AVCC1, 8 P5.4/XIN, 9 P5.5/XOUT, 10 AVSS1, 11 DVCC1, 12 DVSS1, 13 VCORE, 14 P1.0/TA0CLK/ACLK, 15 P1.1/TA0.0, 16 P1.2/TA0.1, 17 P1.3/TA0.2, 18 P1.4/TA0.3, 19 P1.5/TA0.4, 20 P1.6/TA1CLK/CBOUT, 21 P1.7/TA1.0, 22 P2.0/TA1.1, 23 PJ.0/TDO, 24 PJ.1/TDI/TCLK, 25 PJ.2/TMS, 26 PJ.3/TCK, 27 DVSS2, 28 DVCC2, 29 P4.0/PM_UCB1STE/PM_UCA1CLK, 30 P4.1/PM_UCB1SIMO/PM_UCB1SDA, 31 P4.2/PM_UCB1SOMI/PM_UCB1SCL, 32 P4.3/PM_UCB1CLK/PM_UCA1STE, 33 P4.4/PM_UCA1TXD/PM_UCA1SIMO, 34 P4.5/PM_UCA1RXD/PM_UCA1SOMI, 35 P4.6/PM_NONE, 36 P4.7/PM_NONE, 37 VSSU, 38 PU.0/DP, 39 PUR, 40 PU.1/DM, 41 VBUS, 42 VUSB, 43 V18, 44 AVSS2, 45 P5.2/XT2IN, 46 P5.3/XT2OUT, 47 TEST/SBWTCK, 48 RST/NMI/SBWTDIO

## MSP430G2553_20
designator U?
footprint DIP20 (DIP 20, 20 PIN, W 300mil, Pin to pin 100mil)
pins: 1 DVCC, 2 P1.0/TA0CLK, 3 P1.1/TA0.0, 4 P1.2/TA0.1, 5 P1.3/ADC10CLK, 6 P1.4/SMCLK, 7 P1.5/TA0.0, 8 P2.0/TA1.0, 9 P2.1/TA1.1, 10 P2.2/TA1.1, 11 P2.3/TA1.0, 12 P2.4/TA1.2, 13 P2.5/TA1.2, 14 P1.6/TA0.1, 15 P1.7/CAOUT, 16 RST/NMI, 17 TEST, 18 XOUT/P2.7, 19 XIN/P2.6/TA0.1, 20 DVSS

## MSP430G2553_28
designator U?
footprint TSSOP 28PIN (TSOP, 28-Leads, Body 9.8x4.5mm (max), Pitch 0.65mm, IPC Medium Density)
pins: 1 DVCC, 2 P1.0/TA0CLK, 3 P1.1/TA0.0, 4 P1.2/TA0.1, 5 P1.3/ADC10CLK, 6 P1.4/SMCLK, 7 P1.5/TA0.0, 8 P3.1/TA1.0, 9 P3.0/TA0.2, 10 P2.0/TA1.0, 11 P2.1/TA1.1, 12 P2.2/TA1.1, 13 P3.2/TA1.1, 14 P3.3/TA1.2, 15 P3.4/TA0.0, 16 P2.3/TA1.0, 17 P2.4/TA1.2, 18 P2.5/TA1.2, 19 P3.5/TA0.1, 20 P3.6/TA0.2, 21 P3.7/TA1CLK, 22 P1.6/TA0.1, 23 P1.7/CAOUT, 24 ~{RST}, 25 TEST, 26 XOUT/P2.7, 27 XIN/P2.6/TA0.1, 28 DVSS

## MT25QL128ABA8E12-0SIT
designator U?, comment MT25QL128ABA8E12-0SIT TR
NOR Flash QSPI 128 Mbit T-PBGA-24; Manufacturer: Micron Technology; Manufacturer Part Number: MT25QL128ABA8E12-0SIT TR
footprint T-PBGA-5x5-6x8-24
pins: A4 RESET#, B2 C, B3 VSS, B4 VCC, C2 S#, C4 DQ2/W#, D2 DQ1, D3 DQ0, D4 DQ3/HOLD#

## MT25QL256ABA1EW9-0SIT
designator U?
3V 256-BIT SERIAL FLASH MEMORY QUAD SPI WSON-8; Manufacturer: Micron; Manufacturer Part Number: MT25QL256ABA1EW9-0SIT; Distributor Link: https://www.lcsc.com/product-detail/NOR-FLASH_Micron-Tech-MT25QL256ABA1EW9-0SIT-TR_C2061007.html; LCSC: C2061007
footprint WSON-8-8X6 (8-Pad WSON 8x6-mm (Package Code E) (Winbond))
pins: 1 ~{S} (in), 2 DQ1 (io), 3 ~{W}/DQ2 (io), 4 VSS (power), 5 DQ0 (io), 6 C (in), 7 DQ3/~{HOLD} (io), 8 VCC (power), 9 EP (power)

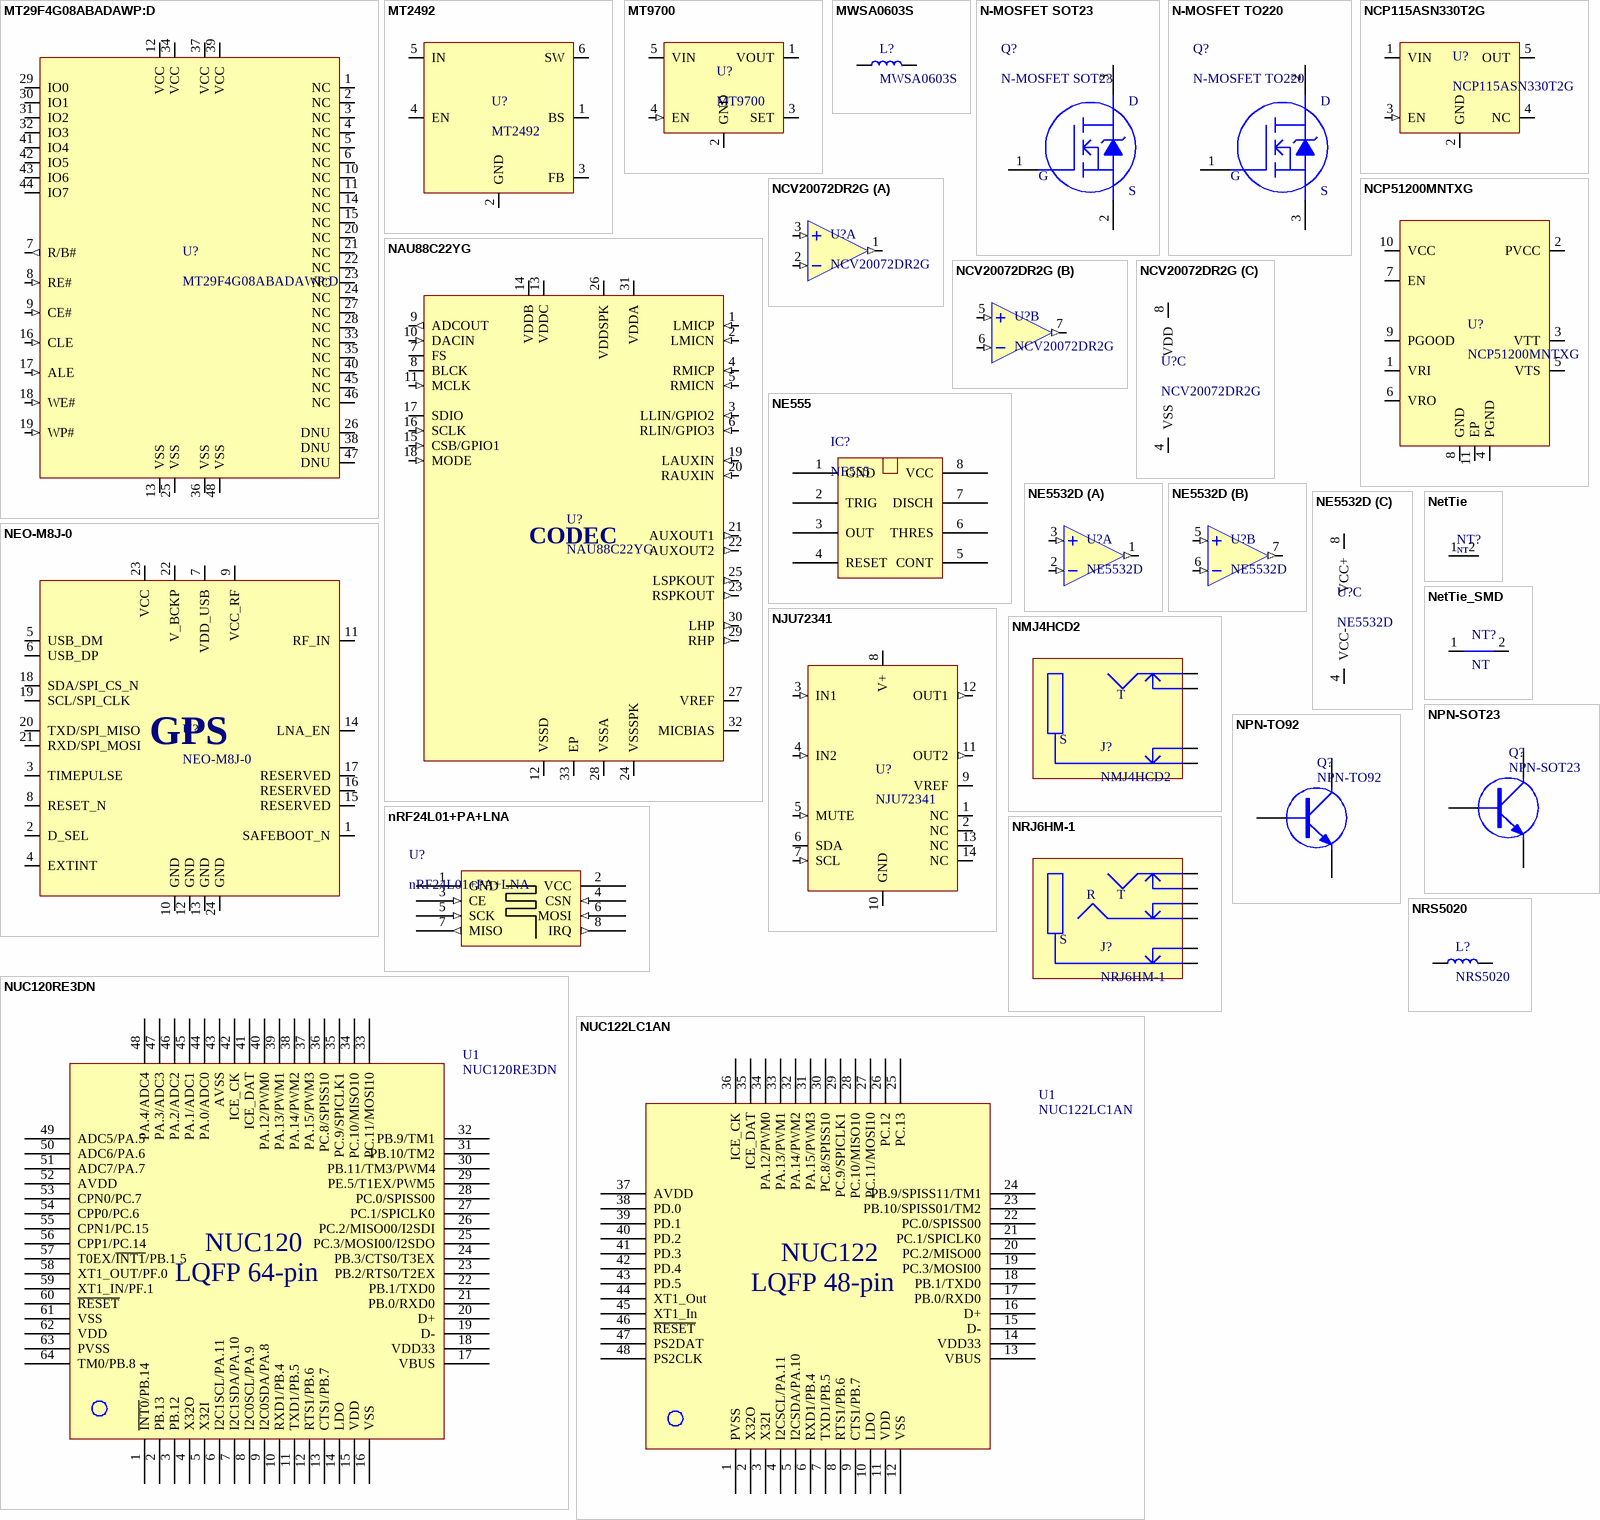
[diagram p22: symbols MT29F4G08ABADAWP:D to NUC122LC1AN]

## MT29F4G08ABADAWP:D
designator U?
NAND FLASH Memory 4Gb x8 TSOP-48; Manufacturer: Micron; Manufacturer Part Number: MT29F4G08ABADAWP:D; LCSC: C78135
footprint TSOP-48
pins: 1 NC, 2 NC, 3 NC, 4 NC, 5 NC, 6 NC, 7 R/B# (out), 8 RE# (in), 9 CE# (in), 10 NC, 11 NC, 12 VCC (power), 13 VSS (power), 14 NC, 15 NC, 16 CLE (in), 17 ALE (in), 18 WE# (in), 19 WP# (in), 20 NC, 21 NC, 22 NC, 23 NC, 24 NC, 25 VSS (power), 26 DNU, 27 NC, 28 NC, 29 IO0 (io), 30 IO1 (io), 31 IO2 (io), 32 IO3 (io), 33 NC, 34 VCC (power), 35 NC, 36 VSS (power), 37 VCC (power), 38 DNU, 39 VCC (power), 40 NC, 41 IO4 (io), 42 IO5 (io), 43 IO6 (io), 44 IO7 (io), 45 NC, 46 NC, 47 DNU, 48 VSS (power)

## MT2492
designator U?
600KHz, 16V，2A Synchronous / Step-Down Converter; Manufacturer: Aerosemi; Manufacturer Part Number: MT2492
footprint SOT-23-6
pins: 1 BS, 2 GND, 3 FB, 4 EN, 5 IN, 6 SW

## MT9700
designator U?
Adjustable Current-Limited Power Distribution Switch; Manufacturer: Aerosemi; Manufacturer Part Number: MT9700
footprint SOT-23-5 (SOT23, 5-Leads, Body 2,90x2,80mm, Pitch 0,95mm, IPC Medium Density)
pins: 1 VOUT (power), 2 GND (power), 3 SET, 4 EN (in), 5 VIN (power)

## MWSA0603S
designator L?
Power Inductor SMD Sunlord MWSA0603S; Manufacturer Part Number: MWSA0603S-; Manufacturer: Sunlord
footprint MWSA0603S
pins: 1, 2

## N-MOSFET SOT23
designator Q?
footprint SOT23 - 3PIN
pins: 1 G, 2 S, 3 D

## N-MOSFET TO220
designator Q?
footprint TO-220 - FLAT
pins: 1 G, 2 D, 3 S

## NAU88C22YG
designator U?
24-bit Stereo Audio Codec with Speaker Driver; Manufacturer: Nuvoton Tech; Manufacturer Part Number: NAU88C22YG
footprint QFN32-5x5-0.5
pins: 1 LMICP (in), 2 LMICN (in), 3 LLIN/GPIO2 (in), 4 RMICP (in), 5 RMICN (in), 6 RLIN/GPIO3 (in), 7 FS (io), 8 BLCK (io), 9 ADCOUT (out), 10 DACIN (in), 11 MCLK (in), 12 VSSD (power), 13 VDDC (power), 14 VDDB (power), 15 CSB/GPIO1 (in), 16 SCLK (in), 17 SDIO (io), 18 MODE (in), 19 LAUXIN (in), 20 RAUXIN (in), 21 AUXOUT1 (out), 22 AUXOUT2 (out), 23 RSPKOUT (out), 24 VSSSPK (power), 25 LSPKOUT (out), 26 VDDSPK (power), 27 VREF (power), 28 VSSA (power), 29 RHP (out), 30 LHP (out), 31 VDDA (power), 32 MICBIAS (power), 33 EP (power)
text: CODEC

## NCP115ASN330T2G
designator U?
LDO Regulator - High PSRR 300 mA 3.3V TSOP-5; Manufacturer: ON Semiconductor; Manufacturer Part Number: NCP115ASN330T2G
footprint TSOT25 (SOT23, 5-Leads, Body 2.90x2.80mm, Pitch 0.95mm, IPC Medium Density)
pins: 1 VIN (power), 2 GND (power), 3 EN (in), 4 NC, 5 OUT (power)

## NCP51200MNTXG
designator U?
Linear Voltage Regulator / 3A for DDR1, DDR2, DDR3, / LPDDR3, DDR4 VTT / Termination; Manufacturer: onsemi; Manufacturer Part Number: NCP51200MNTXG
footprint DFNW10-3x3-0_5P
pins: 1 VRI, 2 PVCC, 3 VTT, 4 PGND, 5 VTS, 6 VRO, 7 EN, 8 GND, 9 PGOOD, 10 VCC, 11 EP

## NCV20072DR2G
designator U?
Dual Rail-to-Rail Output Operational Amplifiers; Manufacturer: onsemi; Manufacturer Part Number: NCV20072DR2G; Distributor Link: https://www.lcsc.com/product-detail/Operational-Amplifier_onsemi-NCV20072DR2G_C411206.html; LCSC: C411206
footprint SOIC-8 (SOIC, 8-Leads, Body 4.91x3.90mm, Pitch 1.27mm, IPC Medium Density)
part A pins: 1 1OUT (out), 2 1IN- (in), 3 1IN+ (in)
part B pins: 5 2IN+ (in), 6 2IN- (in), 7 2OUT (out)
part C pins: 4 VSS (power), 8 VDD (power)

## NE555
designator IC?
footprint DIP8 (W.300/L.400)
pins: 1 GND, 2 TRIG, 3 OUT, 4 RESET, 5 CONT, 6 THRES, 7 DISCH, 8 VCC

## NE5532D
designator U?
Dual Low-Noise Operational Amplifiers; Manufacturer: Texas Instruments; Manufacturer Part Number: NE5532D
footprint SOIC-8 (SOIC, 8-Leads, Body 4.91x3.90mm, Pitch 1.27mm, IPC Medium Density)
part A pins: 1 1OUT (out), 2 1IN- (in), 3 1IN+ (in)
part B pins: 5 2IN+ (in), 6 2IN- (in), 7 2OUT (out)
part C pins: 4 VCC-, 8 VCC+

## NEO-M8J-0
designator U?
u-blox M8 concurrent GNSS module; Manufacturer: u-blox; Manufacturer Part Number: NEO-M8J-0
footprint NEO-M8
pins: 1 SAFEBOOT_N, 2 D_SEL, 3 TIMEPULSE, 4 EXTINT, 5 USB_DM, 6 USB_DP, 7 VDD_USB, 8 RESET_N, 9 VCC_RF, 10 GND, 11 RF_IN, 12 GND, 13 GND, 14 LNA_EN, 15 RESERVED, 16 RESERVED, 17 RESERVED, 18 SDA/SPI_CS_N, 19 SCL/SPI_CLK, 20 TXD/SPI_MISO, 21 RXD/SPI_MOSI, 22 V_BCKP, 23 VCC, 24 GND
text: GPS

## NetTie
designator NT?, comment NT  (value not drawn)  (net tie, no BOM)
Net Tie
footprint NETTIE
pins: 1, 2

## NetTie_SMD
designator NT?, comment NT  (net tie, no BOM)
Net Tie SMD
footprint NETTIE_SMD
pins: 1, 2

## NJU72341
designator U?
2-Channel Audio Volume Control I2C; Manufacturer: Nisshinbo; Manufacturer Part Number: NJU72341V-TE2
footprint SSOP-14
pins: 1 NC, 2 NC, 3 IN1 (in), 4 IN2 (in), 5 MUTE (in), 6 SDA (io), 7 SCL (in), 8 V+ (power), 9 VREF (power), 10 GND (power), 11 OUT2 (out), 12 OUT1 (out), 13 NC, 14 NC

## NMJ4HCD2
designator J?
1/4" Mono Jack, TS Switched; Manufacturer: Neutrik; Manufacturer Part Number: NMJ4HCD2
footprint NMJ4HCD2
pins: S, SN, T, TN

## NPN-SOT23
designator Q?
footprint SOT23 - 3PIN
pins: 1 B, 2 E, 3 C

## NPN-TO92
designator Q?
footprint TO-92 (TO, Flat Index; 3 In-Line, Axial Leads; Body Dia. 4.8mm)
pins: 1 E, 2 C, 3 B

## nRF24L01+PA+LNA
designator U?
footprint nRF24L01+PA+LNA (Module nRF24L01+PA+LNA)
pins: 1 GND (power), 2 VCC (power), 3 CE (in), 4 CSN (in), 5 SCK (in), 6 MOSI (in), 7 MISO (out), 8 IRQ (out)

## NRJ6HM-1
designator J?
1/4" Stereo Jack, TRS Switched; Manufacturer: Neutrik; Manufacturer Part Number: NRJ6HM-1
footprint NRJ6HM-1
pins: R, RN, S, SN, T, TN

## NRS5020
designator L?
NRS5020 SMD Power Inductor Taiyo Yuden; Manufacturer: Taiyo Yuden; Manufacturer Part Number: NRS5020
footprint NRS5020
pins: 1, 2

## NUC120RE3DN
designator U1
footprint LQFP 64 PIN (TSQFP, 64-Leads, Body 12.0x12.0mm (max), Pitch 0.50mm, IPC Medium Density)
pins: 1 ~{INT0}/PB.14, 2 PB.13, 3 PB.12, 4 X32O, 5 X32I, 6 I2C1SCL/PA.11, 7 I2C1SDA/PA.10, 8 I2C0SCL/PA.9, 9 I2C0SDA/PA.8, 10 RXD1/PB.4, 11 TXD1/PB.5, 12 RTS1/PB.6, 13 CTS1/PB.7, 14 LDO, 15 VDD, 16 VSS, 17 VBUS, 18 VDD33, 19 D-, 20 D+, 21 PB.0/RXD0, 22 PB.1/TXD0, 23 PB.2/RTS0/T2EX, 24 PB.3/CTS0/T3EX, 25 PC.3/MOSI00/I2SDO, 26 PC.2/MISO00/I2SDI, 27 PC.1/SPICLK0, 28 PC.0/SPISS00, 29 PE.5/T1EX/PWM5, 30 PB.11/TM3/PWM4, 31 PB.10/TM2, 32 PB.9/TM1, 33 PC.11/MOSI10, 34 PC.10/MISO10, 35 PC.9/SPICLK1, 36 PC.8/SPISS10, 37 PA.15/PWM3, 38 PA.14/PWM2, 39 PA.13/PWM1, 40 PA.12/PWM0, 41 ICE_DAT, 42 ICE_CK, 43 AVSS, 44 PA.0/ADC0, 45 PA.1/ADC1, 46 PA.2/ADC2, 47 PA.3/ADC3, 48 PA.4/ADC4, 49 ADC5/PA.5, 50 ADC6/PA.6, 51 ADC7/PA.7, 52 AVDD, 53 CPN0/PC.7, 54 CPP0/PC.6, 55 CPN1/PC.15, 56 CPP1/PC.14, 57 T0EX/~{INT1}/PB.1 5, 58 XT1_OUT/PF.0, 59 XT1_IN/PF.1, 60 ~{RESET}, 61 VSS, 62 VDD, 63 PVSS, 64 TM0/PB.8
text: NUC120; LQFP 64-pin